# Altium integrated library FPGA.IntLib: 8 symbols (part 1 of 2)
Pins are listed as number, name and electrical type; pins without a type are passive.

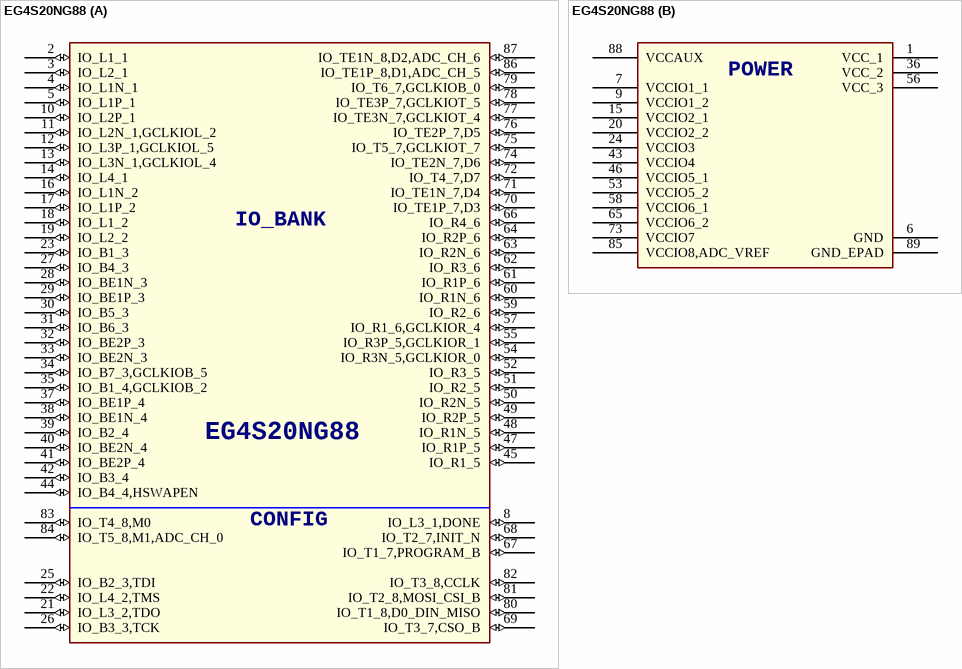
[diagram p0: symbol EG4S20NG88]

## EG4S20NG88
designator U?
SPLIT_INST: TRUE; SWAP_INFO: (S1+S2)
footprint QFN88 (QFN, 88-Leads, Body 10.00x10.00mm, Pitch 0.40mm, Thermal Pad 7.00x7.00mm, IPC Medium Density)
part A pins: 2 IO_L1_1 (io), 3 IO_L2_1 (io), 4 IO_L1N_1 (io), 5 IO_L1P_1 (io), 8 IO_L3_1,DONE (io), 10 IO_L2P_1 (io), 11 IO_L2N_1,GCLKIOL_2 (io), 12 IO_L3P_1,GCLKIOL_5 (io), 13 IO_L3N_1,GCLKIOL_4 (io), 14 IO_L4_1 (io), 16 IO_L1N_2 (io), 17 IO_L1P_2 (io), 18 IO_L1_2 (io), 19 IO_L2_2 (io), 21 IO_L3_2,TDO (io), 22 IO_L4_2,TMS (io), 23 IO_B1_3 (io), 25 IO_B2_3,TDI (io), 26 IO_B3_3,TCK (io), 27 IO_B4_3 (io), 28 IO_BE1N_3 (io), 29 IO_BE1P_3 (io), 30 IO_B5_3 (io), 31 IO_B6_3 (io), 32 IO_BE2P_3 (io), 33 IO_BE2N_3 (io), 34 IO_B7_3,GCLKIOB_5 (io), 35 IO_B1_4,GCLKIOB_2 (io), 37 IO_BE1P_4 (io), 38 IO_BE1N_4 (io), 39 IO_B2_4 (io), 40 IO_BE2N_4 (io), 41 IO_BE2P_4 (io), 42 IO_B3_4 (io), 44 IO_B4_4,HSWAPEN (io), 45 IO_R1_5 (io), 47 IO_R1P_5 (io), 48 IO_R1N_5 (io), 49 IO_R2P_5 (io), 50 IO_R2N_5 (io), 51 IO_R2_5 (io), 52 IO_R3_5 (io), 54 IO_R3N_5,GCLKIOR_0 (io), 55 IO_R3P_5,GCLKIOR_1 (io), 57 IO_R1_6,GCLKIOR_4 (io), 59 IO_R2_6 (io), 60 IO_R1N_6 (io), 61 IO_R1P_6 (io), 62 IO_R3_6 (io), 63 IO_R2N_6 (io), 64 IO_R2P_6 (io), 66 IO_R4_6 (io), 67 IO_T1_7,PROGRAM_B (io), 68 IO_T2_7,INIT_N (io), 69 IO_T3_7,CSO_B (io), 70 IO_TE1P_7,D3 (io), 71 IO_TE1N_7,D4 (io), 72 IO_T4_7,D7 (io), 74 IO_TE2N_7,D6 (io), 75 IO_T5_7,GCLKIOT_7 (io), 76 IO_TE2P_7,D5 (io), 77 IO_TE3N_7,GCLKIOT_4 (io), 78 IO_TE3P_7,GCLKIOT_5 (io), 79 IO_T6_7,GCLKIOB_0 (io), 80 IO_T1_8,D0_DIN_MISO (io), 81 IO_T2_8,MOSI_CSI_B (io), 82 IO_T3_8,CCLK (io), 83 IO_T4_8,M0 (io), 84 IO_T5_8,M1,ADC_CH_0 (io), 86 IO_TE1P_8,D1,ADC_CH_5 (io), 87 IO_TE1N_8,D2,ADC_CH_6 (io)
part B pins: 1 VCC_1 (power), 6 GND (power), 7 VCCIO1_1 (power), 9 VCCIO1_2 (power), 15 VCCIO2_1 (power), 20 VCCIO2_2 (power), 24 VCCIO3 (power), 36 VCC_2 (power), 43 VCCIO4 (power), 46 VCCIO5_1 (power), 53 VCCIO5_2 (power), 56 VCC_3 (power), 58 VCCIO6_1 (power), 65 VCCIO6_2 (power), 73 VCCIO7 (power), 85 VCCIO8,ADC_VREF (power), 88 VCCAUX (power), 89 GND_EPAD (power)
part A text: IO_BANK; CONFIG
part B text: POWER


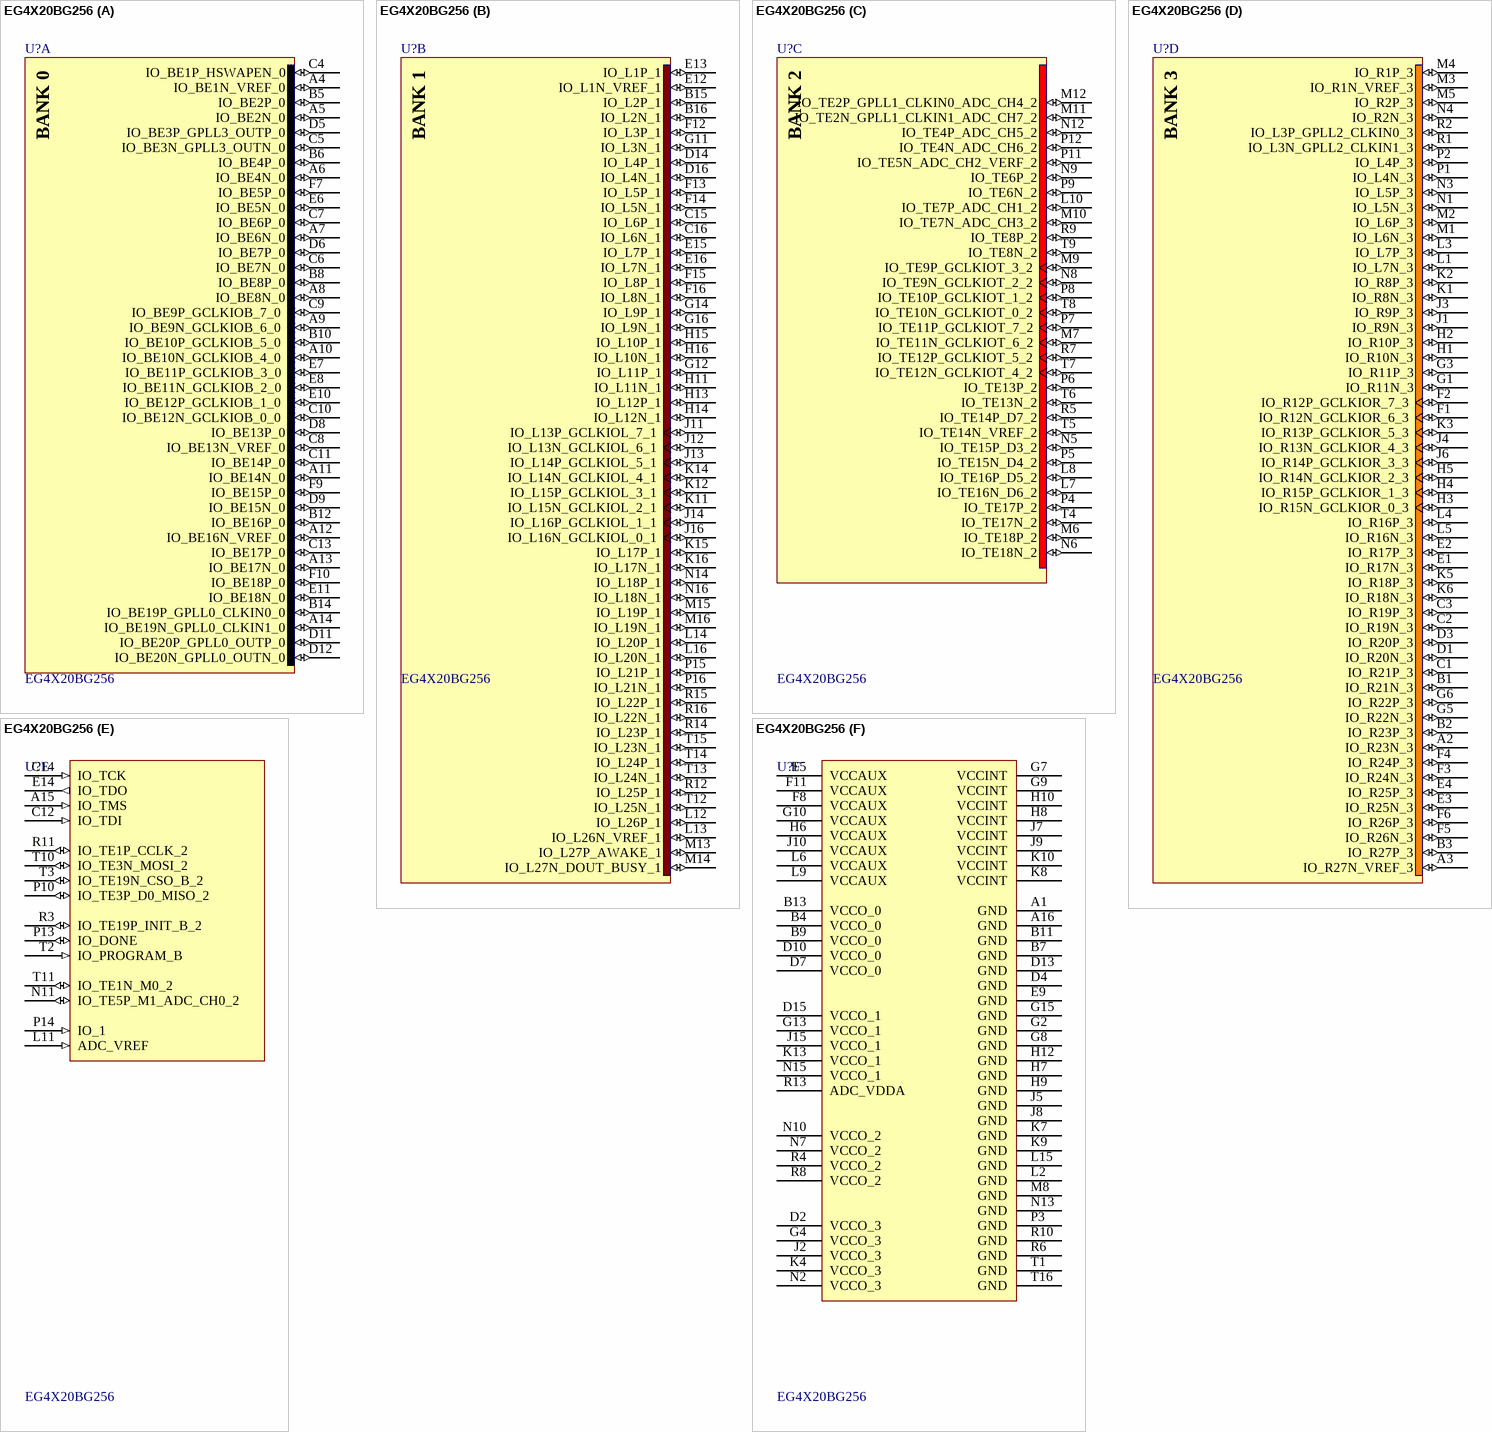
[diagram p1: symbol EG4X20BG256]

## EG4X20BG256
designator U?
Anlogic FPGA, 184 I/O Pins, 4 PLLs, 256-Pin FBGA
footprint BGA_17x17mm_P1.0mm_256P (BGA, 100-Leads, Body 17.00x17.00mmx1.40mm, Pitch 1.00mm)
part A pins: A4 IO_BE1N_VREF_0 (io), A5 IO_BE2N_0 (io), A6 IO_BE4N_0 (io), A7 IO_BE6N_0 (io), A8 IO_BE8N_0 (io), A9 IO_BE9N_GCLKIOB_6_0 (io), A10 IO_BE10N_GCLKIOB_4_0 (io), A11 IO_BE14N_0 (io), A12 IO_BE16N_VREF_0 (io), A13 IO_BE17N_0 (io), A14 IO_BE19N_GPLL0_CLKIN1_0 (io), B5 IO_BE2P_0 (io), B6 IO_BE4P_0 (io), B8 IO_BE8P_0 (io), B10 IO_BE10P_GCLKIOB_5_0 (io), B12 IO_BE16P_0 (io), B14 IO_BE19P_GPLL0_CLKIN0_0 (io), C4 IO_BE1P_HSWAPEN_0 (io), C5 IO_BE3N_GPLL3_OUTN_0 (io), C6 IO_BE7N_0 (io), C7 IO_BE6P_0 (io), C8 IO_BE13N_VREF_0 (io), C9 IO_BE9P_GCLKIOB_7_0 (io), C10 IO_BE12N_GCLKIOB_0_0 (io), C11 IO_BE14P_0 (io), C13 IO_BE17P_0 (io), D5 IO_BE3P_GPLL3_OUTP_0 (io), D6 IO_BE7P_0 (io), D8 IO_BE13P_0 (io), D9 IO_BE15N_0 (io), D11 IO_BE20P_GPLL0_OUTP_0 (io), D12 IO_BE20N_GPLL0_OUTN_0 (io), E6 IO_BE5N_0 (io), E7 IO_BE11P_GCLKIOB_3_0 (io), E8 IO_BE11N_GCLKIOB_2_0 (io), E10 IO_BE12P_GCLKIOB_1_0 (io), E11 IO_BE18N_0 (io), F7 IO_BE5P_0 (io), F9 IO_BE15P_0 (io), F10 IO_BE18P_0 (io)
part B pins: B15 IO_L2P_1 (io), B16 IO_L2N_1 (io), C15 IO_L6P_1 (io), C16 IO_L6N_1 (io), D14 IO_L4P_1 (io), D16 IO_L4N_1 (io), E12 IO_L1N_VREF_1 (io), E13 IO_L1P_1 (io), E15 IO_L7P_1 (io), E16 IO_L7N_1 (io), F12 IO_L3P_1 (io), F13 IO_L5P_1 (io), F14 IO_L5N_1 (io), F15 IO_L8P_1 (io), F16 IO_L8N_1 (io), G11 IO_L3N_1 (io), G12 IO_L11P_1 (io), G14 IO_L9P_1 (io), G16 IO_L9N_1 (io), H11 IO_L11N_1 (io), H13 IO_L12P_1 (io), H14 IO_L12N_1 (io), H15 IO_L10P_1 (io), H16 IO_L10N_1 (io), J11 IO_L13P_GCLKIOL_7_1 (io), J12 IO_L13N_GCLKIOL_6_1 (io), J13 IO_L14P_GCLKIOL_5_1 (io), J14 IO_L16P_GCLKIOL_1_1 (io), J16 IO_L16N_GCLKIOL_0_1 (io), K11 IO_L15N_GCLKIOL_2_1 (io), K12 IO_L15P_GCLKIOL_3_1 (io), K14 IO_L14N_GCLKIOL_4_1 (io), K15 IO_L17P_1 (io), K16 IO_L17N_1 (io), L12 IO_L26P_1 (io), L13 IO_L26N_VREF_1 (io), L14 IO_L20P_1 (io), L16 IO_L20N_1 (io), M13 IO_L27P_AWAKE_1 (io), M14 IO_L27N_DOUT_BUSY_1 (io), M15 IO_L19P_1 (io), M16 IO_L19N_1 (io), N14 IO_L18P_1 (io), N16 IO_L18N_1 (io), P15 IO_L21P_1 (io), P16 IO_L21N_1 (io), R12 IO_L25P_1 (io), R14 IO_L23P_1 (io), R15 IO_L22P_1 (io), R16 IO_L22N_1 (io), T12 IO_L25N_1 (io), T13 IO_L24N_1 (io), T14 IO_L24P_1 (io), T15 IO_L23N_1 (io)
part C pins: L7 IO_TE16N_D6_2 (io), L8 IO_TE16P_D5_2 (io), L10 IO_TE7P_ADC_CH1_2 (io), M6 IO_TE18P_2 (io), M7 IO_TE11N_GCLKIOT_6_2 (io), M9 IO_TE9P_GCLKIOT_3_2 (io), M10 IO_TE7N_ADC_CH3_2 (io), M11 IO_TE2N_GPLL1_CLKIN1_ADC_CH7_2 (io), M12 IO_TE2P_GPLL1_CLKIN0_ADC_CH4_2 (io), N5 IO_TE15P_D3_2 (io), N6 IO_TE18N_2 (io), N8 IO_TE9N_GCLKIOT_2_2 (io), N9 IO_TE6P_2 (io), N12 IO_TE4P_ADC_CH5_2 (io), P4 IO_TE17P_2 (io), P5 IO_TE15N_D4_2 (io), P6 IO_TE13P_2 (io), P7 IO_TE11P_GCLKIOT_7_2 (io), P8 IO_TE10P_GCLKIOT_1_2 (io), P9 IO_TE6N_2 (io), P11 IO_TE5N_ADC_CH2_VERF_2 (io), P12 IO_TE4N_ADC_CH6_2 (io), R5 IO_TE14P_D7_2 (io), R7 IO_TE12P_GCLKIOT_5_2 (io), R9 IO_TE8P_2 (io), T4 IO_TE17N_2 (io), T5 IO_TE14N_VREF_2 (io), T6 IO_TE13N_2 (io), T7 IO_TE12N_GCLKIOT_4_2 (io), T8 IO_TE10N_GCLKIOT_0_2 (io), T9 IO_TE8N_2 (io)
part D pins: A2 IO_R23N_3 (io), A3 IO_R27N_VREF_3 (io), B1 IO_R21N_3 (io), B2 IO_R23P_3 (io), B3 IO_R27P_3 (io), C1 IO_R21P_3 (io), C2 IO_R19N_3 (io), C3 IO_R19P_3 (io), D1 IO_R20N_3 (io), D3 IO_R20P_3 (io), E1 IO_R17N_3 (io), E2 IO_R17P_3 (io), E3 IO_R25N_3 (io), E4 IO_R25P_3 (io), F1 IO_R12N_GCLKIOR_6_3 (io), F2 IO_R12P_GCLKIOR_7_3 (io), F3 IO_R24N_3 (io), F4 IO_R24P_3 (io), F5 IO_R26N_3 (io), F6 IO_R26P_3 (io), G1 IO_R11N_3 (io), G3 IO_R11P_3 (io), G5 IO_R22N_3 (io), G6 IO_R22P_3 (io), H1 IO_R10N_3 (io), H2 IO_R10P_3 (io), H3 IO_R15N_GCLKIOR_0_3 (io), H4 IO_R15P_GCLKIOR_1_3 (io), H5 IO_R14N_GCLKIOR_2_3 (io), J1 IO_R9N_3 (io), J3 IO_R9P_3 (io), J4 IO_R13N_GCLKIOR_4_3 (io), J6 IO_R14P_GCLKIOR_3_3 (io), K1 IO_R8N_3 (io), K2 IO_R8P_3 (io), K3 IO_R13P_GCLKIOR_5_3 (io), K5 IO_R18P_3 (io), K6 IO_R18N_3 (io), L1 IO_L7N_3 (io), L3 IO_L7P_3 (io), L4 IO_R16P_3 (io), L5 IO_R16N_3 (io), M1 IO_L6N_3 (io), M2 IO_L6P_3 (io), M3 IO_R1N_VREF_3 (io), M4 IO_R1P_3 (io), M5 IO_R2P_3 (io), N1 IO_L5N_3 (io), N3 IO_L5P_3 (io), N4 IO_R2N_3 (io), P1 IO_L4N_3 (io), P2 IO_L4P_3 (io), R1 IO_L3N_GPLL2_CLKIN1_3 (io), R2 IO_L3P_GPLL2_CLKIN0_3 (io)
part E pins: A15 IO_TMS (in), C12 IO_TDI (in), C14 IO_TCK (in), E14 IO_TDO (out), L11 ADC_VREF (in), N11 IO_TE5P_M1_ADC_CH0_2 (io), P10 IO_TE3P_D0_MISO_2 (io), P13 IO_DONE (io), P14 IO_1 (in), R3 IO_TE19P_INIT_B_2 (io), R11 IO_TE1P_CCLK_2 (io), T2 IO_PROGRAM_B (in), T3 IO_TE19N_CSO_B_2 (io), T10 IO_TE3N_MOSI_2 (io), T11 IO_TE1N_M0_2 (io)
part F pins: A1 GND (power), A16 GND (power), B4 VCCO_0 (power), B7 GND (power), B9 VCCO_0 (power), B11 GND (power), B13 VCCO_0 (power), D2 VCCO_3 (power), D4 GND (power), D7 VCCO_0 (power), D10 VCCO_0 (power), D13 GND (power), D15 VCCO_1 (power), E5 VCCAUX (power), E9 GND (power), F8 VCCAUX (power), F11 VCCAUX (power), G2 GND (power), G4 VCCO_3 (power), G7 VCCINT (power), G8 GND (power), G9 VCCINT (power), G10 VCCAUX (power), G13 VCCO_1 (power), G15 GND (power), H6 VCCAUX (power), H7 GND (power), H8 VCCINT (power), H9 GND (power), H10 VCCINT (power), H12 GND (power), J2 VCCO_3 (power), J5 GND (power), J7 VCCINT (power), J8 GND (power), J9 VCCINT (power), J10 VCCAUX (power), J15 VCCO_1 (power), K4 VCCO_3 (power), K7 GND (power), K8 VCCINT (power), K9 GND (power), K10 VCCINT (power), K13 VCCO_1 (power), L2 GND (power), L6 VCCAUX (power), L9 VCCAUX (power), L15 GND (power), M8 GND (power), N2 VCCO_3 (power), N7 VCCO_2 (power), N10 VCCO_2 (power), N13 GND (power), N15 VCCO_1 (power), P3 GND (power), R4 VCCO_2 (power), R6 GND (power), R8 VCCO_2 (power), R10 GND (power), R13 ADC_VDDA (power), T1 GND (power), T16 GND (power)
part A text: BANK 0
part B text: BANK 1
part C text: BANK 2
part D text: BANK 3

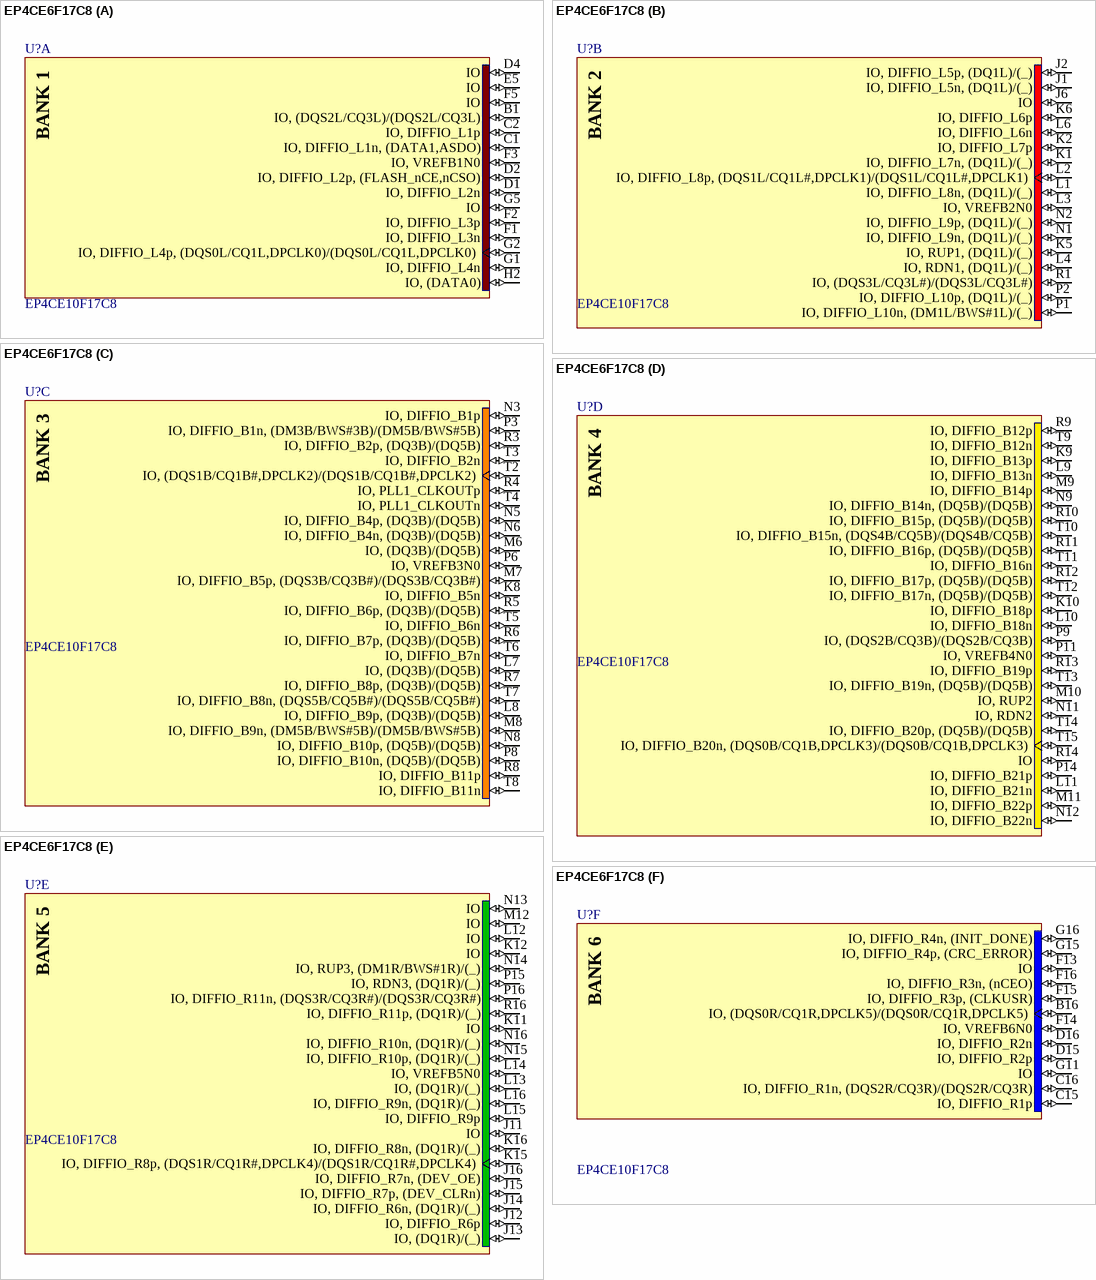
[diagram p2: symbol EP4CE6F17C8]

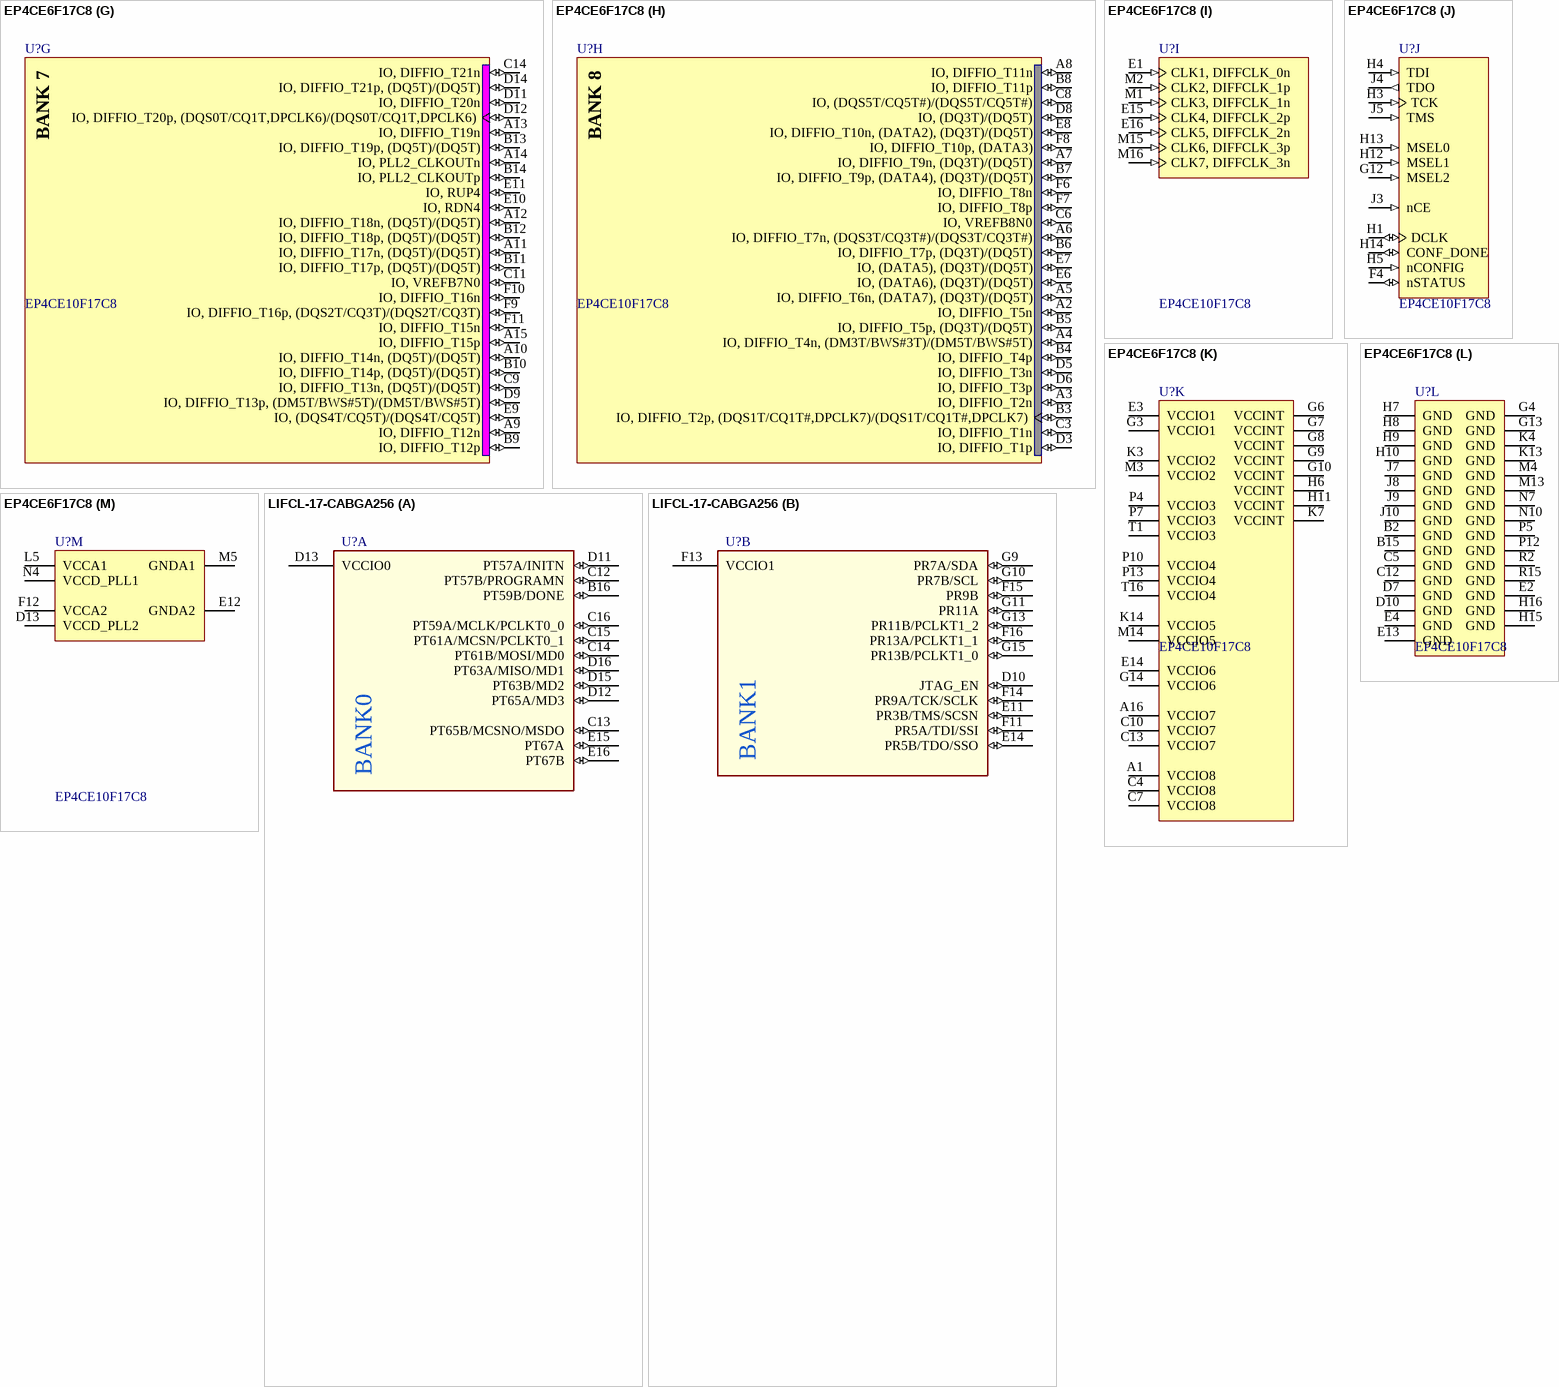
[diagram p3: symbols EP4CE6F17C8 to LIFCL-17-CABGA256]

## EP4CE6F17C8
designator U?, comment EP4CE10F17C8
Cyclone IV Family FPGA, 2V Core, 179 I/O Pins, 2 PLLs, 256-Pin FBGA, Speed Grade 8, Commercial Grade; Published: 3-May-2010; DatasheetVersion: ver1.2, Mar-2010; PackageVersion: ver16.0, Dec-2009; PackageReference: FBGA256; Publisher: Altium Limited; PackageDescription: 256-Ball FineLine Ball Grid Array (FBGA256) - Option 1 - Wire Bond; Supplier 1: Digi-Key; Supplier Part Number 1: EP4CE6F17C8-ND; Code_JEDEC: MS-034-AAF-1; Code_IPC: BGA100P16X16-256; ComponentLink1Description: Manufacturer Link; ComponentLink1URL: http://www.altera.com/; ComponentLink2Description: Handbook; ComponentLink2URL: http://www.altera.com/literature/hb/cyclone-iv/cyclone4-handbook.pdf; ComponentLink3Description: Pinout Specification; ComponentLink3URL: http://www.altera.com/literature/lit-dp.jsp?category=cyc%204&showspreadsheet=y; ComponentLink4Description: Packaging Specification; ComponentLink4URL: http://www.altera.com/literature/ds/dspkg.pdf
footprint FBGA256
part A pins: B1 IO, (DQS2L/CQ3L)/(DQS2L/CQ3L) (io), C1 IO, DIFFIO_L1n, (DATA1,ASDO) (io), C2 IO, DIFFIO_L1p (io), D1 IO, DIFFIO_L2n (io), D2 IO, DIFFIO_L2p, (FLASH_nCE,nCSO) (io), D4 IO (io), E5 IO (io), F1 IO, DIFFIO_L3n (io), F2 IO, DIFFIO_L3p (io), F3 IO, VREFB1N0 (io), F5 IO (io), G1 IO, DIFFIO_L4n (io), G2 IO, DIFFIO_L4p, (DQS0L/CQ1L,DPCLK0)/(DQS0L/CQ1L,DPCLK0) (io), G5 IO (io), H2 IO, (DATA0) (io)
part B pins: J1 IO, DIFFIO_L5n, (DQ1L)/(_) (io), J2 IO, DIFFIO_L5p, (DQ1L)/(_) (io), J6 IO (io), K1 IO, DIFFIO_L7n, (DQ1L)/(_) (io), K2 IO, DIFFIO_L7p (io), K5 IO, RUP1, (DQ1L)/(_) (io), K6 IO, DIFFIO_L6p (io), L1 IO, DIFFIO_L8n, (DQ1L)/(_) (io), L2 IO, DIFFIO_L8p, (DQS1L/CQ1L#,DPCLK1)/(DQS1L/CQ1L#,DPCLK1) (io), L3 IO, VREFB2N0 (io), L4 IO, RDN1, (DQ1L)/(_) (io), L6 IO, DIFFIO_L6n (io), N1 IO, DIFFIO_L9n, (DQ1L)/(_) (io), N2 IO, DIFFIO_L9p, (DQ1L)/(_) (io), P1 IO, DIFFIO_L10n, (DM1L/BWS#1L)/(_) (io), P2 IO, DIFFIO_L10p, (DQ1L)/(_) (io), R1 IO, (DQS3L/CQ3L#)/(DQS3L/CQ3L#) (io)
part C pins: K8 IO, DIFFIO_B5n (io), L7 IO, (DQ3B)/(DQ5B) (io), L8 IO, DIFFIO_B9p, (DQ3B)/(DQ5B) (io), M6 IO, (DQ3B)/(DQ5B) (io), M7 IO, DIFFIO_B5p, (DQS3B/CQ3B#)/(DQS3B/CQ3B#) (io), M8 IO, DIFFIO_B9n, (DM5B/BWS#5B)/(DM5B/BWS#5B) (io), N3 IO, DIFFIO_B1p (io), N5 IO, DIFFIO_B4p, (DQ3B)/(DQ5B) (io), N6 IO, DIFFIO_B4n, (DQ3B)/(DQ5B) (io), N8 IO, DIFFIO_B10p, (DQ5B)/(DQ5B) (io), P3 IO, DIFFIO_B1n, (DM3B/BWS#3B)/(DM5B/BWS#5B) (io), P6 IO, VREFB3N0 (io), P8 IO, DIFFIO_B10n, (DQ5B)/(DQ5B) (io), R3 IO, DIFFIO_B2p, (DQ3B)/(DQ5B) (io), R4 IO, PLL1_CLKOUTp (io), R5 IO, DIFFIO_B6p, (DQ3B)/(DQ5B) (io), R6 IO, DIFFIO_B7p, (DQ3B)/(DQ5B) (io), R7 IO, DIFFIO_B8p, (DQ3B)/(DQ5B) (io), R8 IO, DIFFIO_B11p (io), T2 IO, (DQS1B/CQ1B#,DPCLK2)/(DQS1B/CQ1B#,DPCLK2) (io), T3 IO, DIFFIO_B2n (io), T4 IO, PLL1_CLKOUTn (io), T5 IO, DIFFIO_B6n (io), T6 IO, DIFFIO_B7n (io), T7 IO, DIFFIO_B8n, (DQS5B/CQ5B#)/(DQS5B/CQ5B#) (io), T8 IO, DIFFIO_B11n (io)
part D pins: K9 IO, DIFFIO_B13p (io), K10 IO, DIFFIO_B18p (io), L9 IO, DIFFIO_B13n (io), L10 IO, DIFFIO_B18n (io), L11 IO, DIFFIO_B21n (io), M9 IO, DIFFIO_B14p (io), M10 IO, RUP2 (io), M11 IO, DIFFIO_B22p (io), N9 IO, DIFFIO_B14n, (DQ5B)/(DQ5B) (io), N11 IO, RDN2 (io), N12 IO, DIFFIO_B22n (io), P9 IO, (DQS2B/CQ3B)/(DQS2B/CQ3B) (io), P11 IO, VREFB4N0 (io), P14 IO, DIFFIO_B21p (io), R9 IO, DIFFIO_B12p (io), R10 IO, DIFFIO_B15p, (DQ5B)/(DQ5B) (io), R11 IO, DIFFIO_B16p, (DQ5B)/(DQ5B) (io), R12 IO, DIFFIO_B17p, (DQ5B)/(DQ5B) (io), R13 IO, DIFFIO_B19p (io), R14 IO (io), T9 IO, DIFFIO_B12n (io), T10 IO, DIFFIO_B15n, (DQS4B/CQ5B)/(DQS4B/CQ5B) (io), T11 IO, DIFFIO_B16n (io), T12 IO, DIFFIO_B17n, (DQ5B)/(DQ5B) (io), T13 IO, DIFFIO_B19n, (DQ5B)/(DQ5B) (io), T14 IO, DIFFIO_B20p, (DQ5B)/(DQ5B) (io), T15 IO, DIFFIO_B20n, (DQS0B/CQ1B,DPCLK3)/(DQS0B/CQ1B,DPCLK3) (io)
part E pins: J11 IO (io), J12 IO, DIFFIO_R6p (io), J13 IO, (DQ1R)/(_) (io), J14 IO, DIFFIO_R6n, (DQ1R)/(_) (io), J15 IO, DIFFIO_R7p, (DEV_CLRn) (io), J16 IO, DIFFIO_R7n, (DEV_OE) (io), K11 IO (io), K12 IO (io), K15 IO, DIFFIO_R8p, (DQS1R/CQ1R#,DPCLK4)/(DQS1R/CQ1R#,DPCLK4) (io), K16 IO, DIFFIO_R8n, (DQ1R)/(_) (io), L12 IO (io), L13 IO, (DQ1R)/(_) (io), L14 IO, VREFB5N0 (io), L15 IO, DIFFIO_R9p (io), L16 IO, DIFFIO_R9n, (DQ1R)/(_) (io), M12 IO (io), N13 IO (io), N14 IO, RUP3, (DM1R/BWS#1R)/(_) (io), N15 IO, DIFFIO_R10p, (DQ1R)/(_) (io), N16 IO, DIFFIO_R10n, (DQ1R)/(_) (io), P15 IO, RDN3, (DQ1R)/(_) (io), P16 IO, DIFFIO_R11n, (DQS3R/CQ3R#)/(DQS3R/CQ3R#) (io), R16 IO, DIFFIO_R11p, (DQ1R)/(_) (io)
part F pins: B16 IO, (DQS0R/CQ1R,DPCLK5)/(DQS0R/CQ1R,DPCLK5) (io), C15 IO, DIFFIO_R1p (io), C16 IO, DIFFIO_R1n, (DQS2R/CQ3R)/(DQS2R/CQ3R) (io), D15 IO, DIFFIO_R2p (io), D16 IO, DIFFIO_R2n (io), F13 IO (io), F14 IO, VREFB6N0 (io), F15 IO, DIFFIO_R3p, (CLKUSR) (io), F16 IO, DIFFIO_R3n, (nCEO) (io), G11 IO (io), G15 IO, DIFFIO_R4p, (CRC_ERROR) (io), G16 IO, DIFFIO_R4n, (INIT_DONE) (io)
part G pins: A9 IO, DIFFIO_T12n (io), A10 IO, DIFFIO_T14n, (DQ5T)/(DQ5T) (io), A11 IO, DIFFIO_T17n, (DQ5T)/(DQ5T) (io), A12 IO, DIFFIO_T18n, (DQ5T)/(DQ5T) (io), A13 IO, DIFFIO_T19n (io), A14 IO, PLL2_CLKOUTn (io), A15 IO, DIFFIO_T15p (io), B9 IO, DIFFIO_T12p (io), B10 IO, DIFFIO_T14p, (DQ5T)/(DQ5T) (io), B11 IO, DIFFIO_T17p, (DQ5T)/(DQ5T) (io), B12 IO, DIFFIO_T18p, (DQ5T)/(DQ5T) (io), B13 IO, DIFFIO_T19p, (DQ5T)/(DQ5T) (io), B14 IO, PLL2_CLKOUTp (io), C9 IO, DIFFIO_T13n, (DQ5T)/(DQ5T) (io), C11 IO, VREFB7N0 (io), C14 IO, DIFFIO_T21n (io), D9 IO, DIFFIO_T13p, (DM5T/BWS#5T)/(DM5T/BWS#5T) (io), D11 IO, DIFFIO_T20n (io), D12 IO, DIFFIO_T20p, (DQS0T/CQ1T,DPCLK6)/(DQS0T/CQ1T,DPCLK6) (io), D14 IO, DIFFIO_T21p, (DQ5T)/(DQ5T) (io), E9 IO, (DQS4T/CQ5T)/(DQS4T/CQ5T) (io), E10 IO, RDN4 (io), E11 IO, RUP4 (io), F9 IO, DIFFIO_T16p, (DQS2T/CQ3T)/(DQS2T/CQ3T) (io), F10 IO, DIFFIO_T16n (io), F11 IO, DIFFIO_T15n (io)
part H pins: A2 IO, DIFFIO_T5n (io), A3 IO, DIFFIO_T2n (io), A4 IO, DIFFIO_T4n, (DM3T/BWS#3T)/(DM5T/BWS#5T) (io), A5 IO, DIFFIO_T6n, (DATA7), (DQ3T)/(DQ5T) (io), A6 IO, DIFFIO_T7n, (DQS3T/CQ3T#)/(DQS3T/CQ3T#) (io), A7 IO, DIFFIO_T9n, (DQ3T)/(DQ5T) (io), A8 IO, DIFFIO_T11n (io), B3 IO, DIFFIO_T2p, (DQS1T/CQ1T#,DPCLK7)/(DQS1T/CQ1T#,DPCLK7) (io), B4 IO, DIFFIO_T4p (io), B5 IO, DIFFIO_T5p, (DQ3T)/(DQ5T) (io), B6 IO, DIFFIO_T7p, (DQ3T)/(DQ5T) (io), B7 IO, DIFFIO_T9p, (DATA4), (DQ3T)/(DQ5T) (io), B8 IO, DIFFIO_T11p (io), C3 IO, DIFFIO_T1n (io), C6 IO, VREFB8N0 (io), C8 IO, (DQS5T/CQ5T#)/(DQS5T/CQ5T#) (io), D3 IO, DIFFIO_T1p (io), D5 IO, DIFFIO_T3n (io), D6 IO, DIFFIO_T3p (io), D8 IO, (DQ3T)/(DQ5T) (io), E6 IO, (DATA6), (DQ3T)/(DQ5T) (io), E7 IO, (DATA5), (DQ3T)/(DQ5T) (io), E8 IO, DIFFIO_T10n, (DATA2), (DQ3T)/(DQ5T) (io), F6 IO, DIFFIO_T8n (io), F7 IO, DIFFIO_T8p (io), F8 IO, DIFFIO_T10p, (DATA3) (io)
part I pins: E1 CLK1, DIFFCLK_0n (in), E15 CLK4, DIFFCLK_2p (in), E16 CLK5, DIFFCLK_2n (in), M1 CLK3, DIFFCLK_1n (in), M2 CLK2, DIFFCLK_1p (in), M15 CLK6, DIFFCLK_3p (in), M16 CLK7, DIFFCLK_3n (in)
part J pins: F4 nSTATUS (io), G12 MSEL2 (in), H1 DCLK (io), H3 TCK (in), H4 TDI (in), H5 nCONFIG (in), H12 MSEL1 (in), H13 MSEL0 (in), H14 CONF_DONE (io), J3 nCE (in), J4 TDO (out), J5 TMS (in)
part K pins: A1 VCCIO8 (power), A16 VCCIO7 (power), C4 VCCIO8 (power), C7 VCCIO8 (power), C10 VCCIO7 (power), C13 VCCIO7 (power), E3 VCCIO1 (power), E14 VCCIO6 (power), G3 VCCIO1 (power), G6 VCCINT (power), G7 VCCINT (power), G8 VCCINT (power), G9 VCCINT (power), G10 VCCINT (power), G14 VCCIO6 (power), H6 VCCINT (power), H11 VCCINT (power), K3 VCCIO2 (power), K7 VCCINT (power), K14 VCCIO5 (power), M3 VCCIO2 (power), M14 VCCIO5 (power), P4 VCCIO3 (power), P7 VCCIO3 (power), P10 VCCIO4 (power), P13 VCCIO4 (power), T1 VCCIO3 (power), T16 VCCIO4 (power)
part L pins: B2 GND (power), B15 GND (power), C5 GND (power), C12 GND (power), D7 GND (power), D10 GND (power), E2 GND (power), E4 GND (power), E13 GND (power), G4 GND (power), G13 GND (power), H7 GND (power), H8 GND (power), H9 GND (power), H10 GND (power), H15 GND (power), H16 GND (power), J7 GND (power), J8 GND (power), J9 GND (power), J10 GND (power), K4 GND (power), K13 GND (power), M4 GND (power), M13 GND (power), N7 GND (power), N10 GND (power), P5 GND (power), P12 GND (power), R2 GND (power), R15 GND (power)
part M pins: D13 VCCD_PLL2 (power), E12 GNDA2 (power), F12 VCCA2 (power), L5 VCCA1 (power), M5 GNDA1 (power), N4 VCCD_PLL1 (power)
part A text: BANK 1
part B text: BANK 2
part C text: BANK 3
part D text: BANK 4
part E text: BANK 5
part F text: BANK 6
part G text: BANK 7
part H text: BANK 8

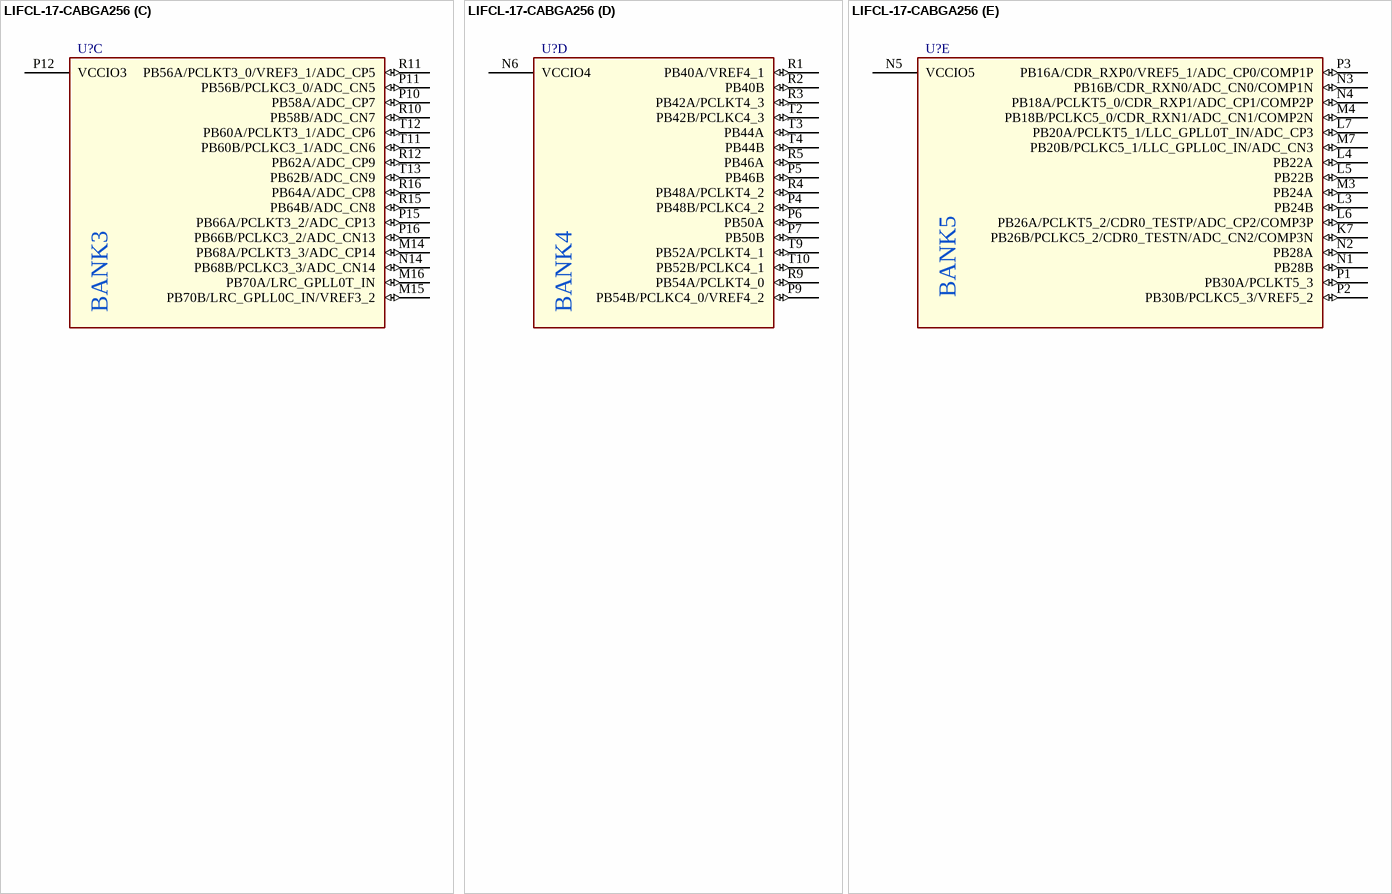
[diagram p4: symbol LIFCL-17-CABGA256]

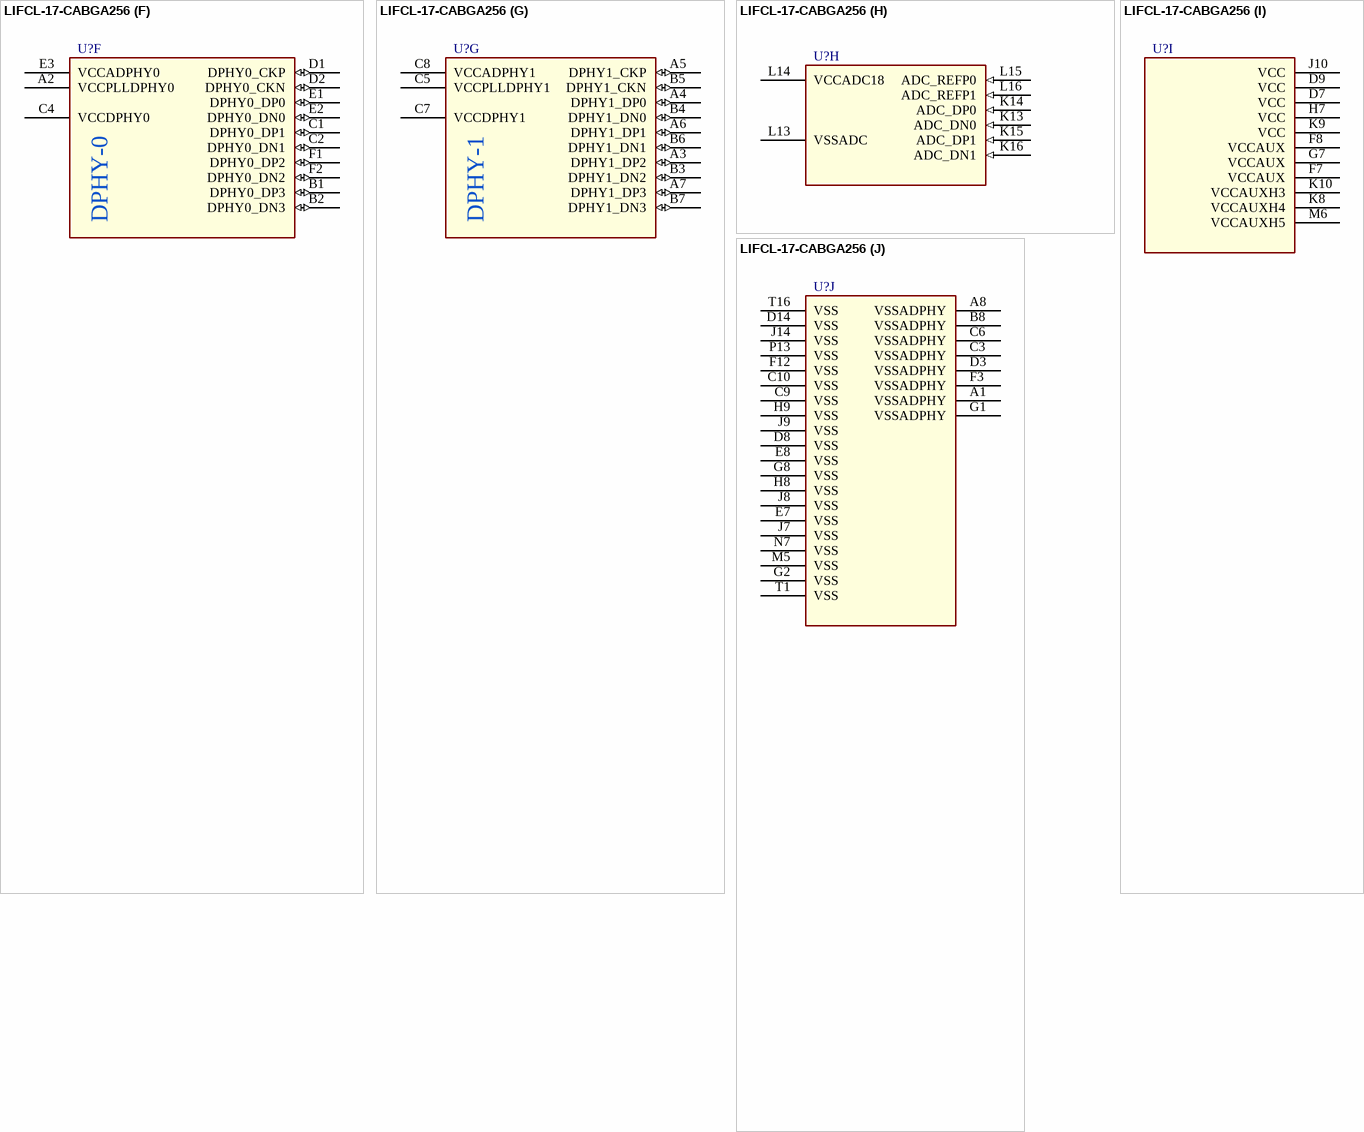
[diagram p5: symbol LIFCL-17-CABGA256]

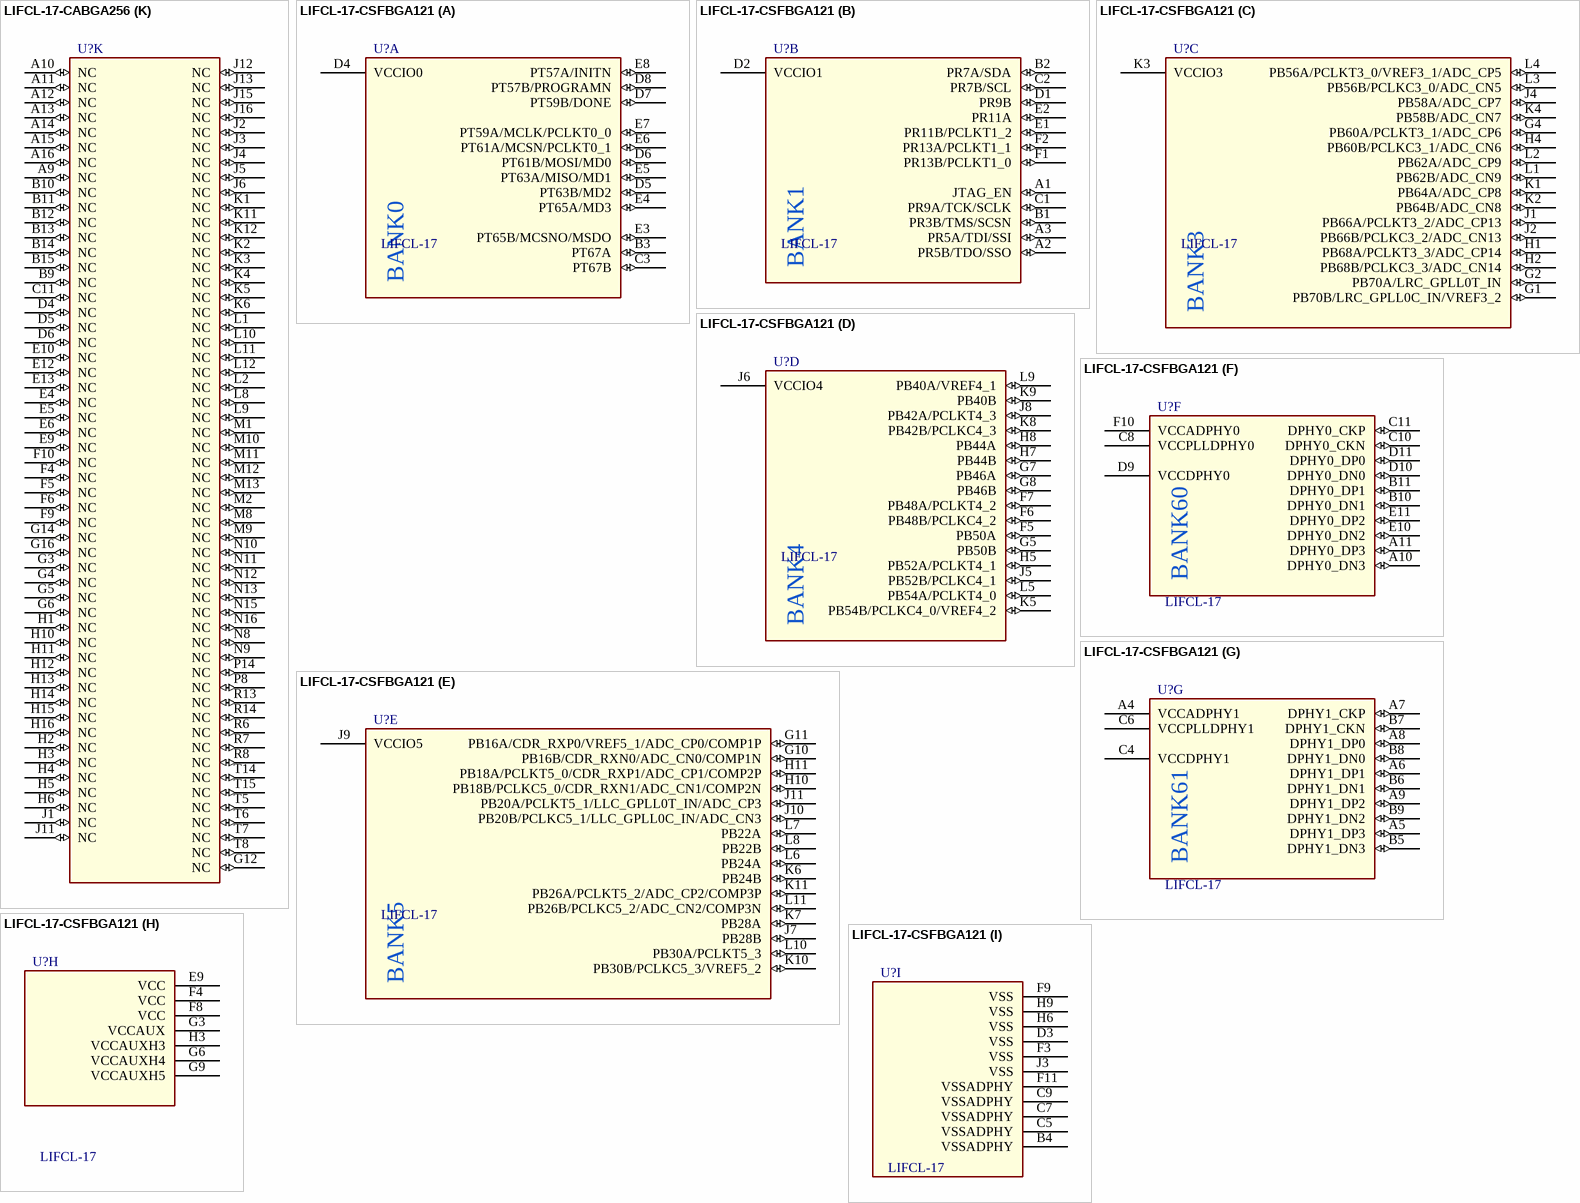
[diagram p6: symbols LIFCL-17-CABGA256 to LIFCL-17-CSFBGA121]

## LIFCL-17-CABGA256
designator U?
LIFCL-17-xBG256I
footprint CABGA-256_L14.0-W14.0-R16-C16-P0.80-TL
part A pins: B16 PT59B/DONE (io), C12 PT57B/PROGRAMN (io), C13 PT65B/MCSNO/MSDO (io), C14 PT61B/MOSI/MD0 (io), C15 PT61A/MCSN/PCLKT0_1 (io), C16 PT59A/MCLK/PCLKT0_0 (io), D11 PT57A/INITN (io), D12 PT65A/MD3 (io), D13 VCCIO0 (power), D15 PT63B/MD2 (io), D16 PT63A/MISO/MD1 (io), E15 PT67A (io), E16 PT67B (io)
part B pins: D10 JTAG_EN (io), E11 PR3B/TMS/SCSN (io), E14 PR5B/TDO/SSO (io), F11 PR5A/TDI/SSI (io), F13 VCCIO1 (power), F14 PR9A/TCK/SCLK (io), F15 PR9B (io), F16 PR13A/PCLKT1_1 (io), G9 PR7A/SDA (io), G10 PR7B/SCL (io), G11 PR11A (io), G13 PR11B/PCLKT1_2 (io), G15 PR13B/PCLKT1_0 (io)
part C pins: M14 PB68A/PCLKT3_3/ADC_CP14 (io), M15 PB70B/LRC_GPLL0C_IN/VREF3_2 (io), M16 PB70A/LRC_GPLL0T_IN (io), N14 PB68B/PCLKC3_3/ADC_CN14 (io), P10 PB58A/ADC_CP7 (io), P11 PB56B/PCLKC3_0/ADC_CN5 (io), P12 VCCIO3 (power), P15 PB66A/PCLKT3_2/ADC_CP13 (io), P16 PB66B/PCLKC3_2/ADC_CN13 (io), R10 PB58B/ADC_CN7 (io), R11 PB56A/PCLKT3_0/VREF3_1/ADC_CP5 (io), R12 PB62A/ADC_CP9 (io), R15 PB64B/ADC_CN8 (io), R16 PB64A/ADC_CP8 (io), T11 PB60B/PCLKC3_1/ADC_CN6 (io), T12 PB60A/PCLKT3_1/ADC_CP6 (io), T13 PB62B/ADC_CN9 (io)
part D pins: N6 VCCIO4 (power), P4 PB48B/PCLKC4_2 (io), P5 PB46B (io), P6 PB50A (io), P7 PB50B (io), P9 PB54B/PCLKC4_0/VREF4_2 (io), R1 PB40A/VREF4_1 (io), R2 PB40B (io), R3 PB42A/PCLKT4_3 (io), R4 PB48A/PCLKT4_2 (io), R5 PB46A (io), R9 PB54A/PCLKT4_0 (io), T2 PB42B/PCLKC4_3 (io), T3 PB44A (io), T4 PB44B (io), T9 PB52A/PCLKT4_1 (io), T10 PB52B/PCLKC4_1 (io)
part E pins: K7 PB26B/PCLKC5_2/CDR0_TESTN/ADC_CN2/COMP3N (io), L3 PB24B (io), L4 PB22A (io), L5 PB22B (io), L6 PB26A/PCLKT5_2/CDR0_TESTP/ADC_CP2/COMP3P (io), L7 PB20A/PCLKT5_1/LLC_GPLL0T_IN/ADC_CP3 (io), M3 PB24A (io), M4 PB18B/PCLKC5_0/CDR_RXN1/ADC_CN1/COMP2N (io), M7 PB20B/PCLKC5_1/LLC_GPLL0C_IN/ADC_CN3 (io), N1 PB28B (io), N2 PB28A (io), N3 PB16B/CDR_RXN0/ADC_CN0/COMP1N (io), N4 PB18A/PCLKT5_0/CDR_RXP1/ADC_CP1/COMP2P (io), N5 VCCIO5 (power), P1 PB30A/PCLKT5_3 (io), P2 PB30B/PCLKC5_3/VREF5_2 (io), P3 PB16A/CDR_RXP0/VREF5_1/ADC_CP0/COMP1P (io)
part F pins: A2 VCCPLLDPHY0 (power), B1 DPHY0_DP3 (io), B2 DPHY0_DN3 (io), C1 DPHY0_DP1 (io), C2 DPHY0_DN1 (io), C4 VCCDPHY0 (power), D1 DPHY0_CKP (io), D2 DPHY0_CKN (io), E1 DPHY0_DP0 (io), E2 DPHY0_DN0 (io), E3 VCCADPHY0 (power), F1 DPHY0_DP2 (io), F2 DPHY0_DN2 (io)
part G pins: A3 DPHY1_DP2 (io), A4 DPHY1_DP0 (io), A5 DPHY1_CKP (io), A6 DPHY1_DP1 (io), A7 DPHY1_DP3 (io), B3 DPHY1_DN2 (io), B4 DPHY1_DN0 (io), B5 DPHY1_CKN (io), B6 DPHY1_DN1 (io), B7 DPHY1_DN3 (io), C5 VCCPLLDPHY1 (power), C7 VCCDPHY1 (power), C8 VCCADPHY1 (power)
part H pins: K13 ADC_DN0 (in), K14 ADC_DP0 (in), K15 ADC_DP1 (in), K16 ADC_DN1 (in), L13 VSSADC (power), L14 VCCADC18 (power), L15 ADC_REFP0 (in), L16 ADC_REFP1 (in)
part I pins: D7 VCC (power), D9 VCC (power), F7 VCCAUX (power), F8 VCCAUX (power), G7 VCCAUX (power), H7 VCC (power), J10 VCC (power), K8 VCCAUXH4 (power), K9 VCC (power), K10 VCCAUXH3 (power), M6 VCCAUXH5 (power)
part J pins: A1 VSSADPHY (power), A8 VSSADPHY (power), B8 VSSADPHY (power), C3 VSSADPHY (power), C6 VSSADPHY (power), C9 VSS (power), C10 VSS (power), D3 VSSADPHY (power), D8 VSS (power), D14 VSS (power), E7 VSS (power), E8 VSS (power), F3 VSSADPHY (power), F12 VSS (power), G1 VSSADPHY (power), G2 VSS (power), G8 VSS (power), H8 VSS (power), H9 VSS (power), J7 VSS (power), J8 VSS (power), J9 VSS (power), J14 VSS (power), M5 VSS (power), N7 VSS (power), P13 VSS (power), T1 VSS (power), T16 VSS (power)
part K pins: A9 NC (io), A10 NC (io), A11 NC (io), A12 NC (io), A13 NC (io), A14 NC (io), A15 NC (io), A16 NC (io), B9 NC (io), B10 NC (io), B11 NC (io), B12 NC (io), B13 NC (io), B14 NC (io), B15 NC (io), C11 NC (io), D4 NC (io), D5 NC (io), D6 NC (io), E4 NC (io), E5 NC (io), E6 NC (io), E9 NC (io), E10 NC (io), E12 NC (io), E13 NC (io), F4 NC (io), F5 NC (io), F6 NC (io), F9 NC (io), F10 NC (io), G3 NC (io), G4 NC (io), G5 NC (io), G6 NC (io), G12 NC (io), G14 NC (io), G16 NC (io), H1 NC (io), H2 NC (io), H3 NC (io), H4 NC (io), H5 NC (io), H6 NC (io), H10 NC (io), H11 NC (io), H12 NC (io), H13 NC (io), H14 NC (io), H15 NC (io), H16 NC (io), J1 NC (io), J2 NC (io), J3 NC (io), J4 NC (io), J5 NC (io), J6 NC (io), J11 NC (io), J12 NC (io), J13 NC (io), J15 NC (io), J16 NC (io), K1 NC (io), K2 NC (io), K3 NC (io), K4 NC (io), K5 NC (io), K6 NC (io), K11 NC (io), K12 NC (io), L1 NC (io), L2 NC (io), L8 NC (io), L9 NC (io), L10 NC (io), L11 NC (io), L12 NC (io), M1 NC (io), M2 NC (io), M8 NC (io), M9 NC (io), M10 NC (io), M11 NC (io), M12 NC (io), M13 NC (io), N8 NC (io), N9 NC (io), N10 NC (io), N11 NC (io), N12 NC (io), N13 NC (io), N15 NC (io), N16 NC (io), P8 NC (io), P14 NC (io), R6 NC (io), R7 NC (io), R8 NC (io), R13 NC (io), R14 NC (io), T5 NC (io), T6 NC (io), T7 NC (io), T8 NC (io), T14 NC (io), T15 NC (io)
part A text: BANK0
part B text: BANK1
part C text: BANK3
part D text: BANK4
part E text: BANK5
part F text: DPHY-0
part G text: DPHY-1

## LIFCL-17-CSFBGA121
designator U?, comment LIFCL-17
LIFCL-17-CSFBGA121
footprint CSFBGA-121_L6.0-W6.0-R11-C11-P0.50-TL
part A pins: B3 PT67A (io), C3 PT67B (io), D4 VCCIO0 (power), D5 PT63B/MD2 (io), D6 PT61B/MOSI/MD0 (io), D7 PT59B/DONE (io), D8 PT57B/PROGRAMN (io), E3 PT65B/MCSNO/MSDO (io), E4 PT65A/MD3 (io), E5 PT63A/MISO/MD1 (io), E6 PT61A/MCSN/PCLKT0_1 (io), E7 PT59A/MCLK/PCLKT0_0 (io), E8 PT57A/INITN (io)
part B pins: A1 JTAG_EN (io), A2 PR5B/TDO/SSO (io), A3 PR5A/TDI/SSI (io), B1 PR3B/TMS/SCSN (io), B2 PR7A/SDA (io), C1 PR9A/TCK/SCLK (io), C2 PR7B/SCL (io), D1 PR9B (io), D2 VCCIO1 (power), E1 PR11B/PCLKT1_2 (io), E2 PR11A (io), F1 PR13B/PCLKT1_0 (io), F2 PR13A/PCLKT1_1 (io)
part C pins: G1 PB70B/LRC_GPLL0C_IN/VREF3_2 (io), G2 PB70A/LRC_GPLL0T_IN (io), G4 PB60A/PCLKT3_1/ADC_CP6 (io), H1 PB68A/PCLKT3_3/ADC_CP14 (io), H2 PB68B/PCLKC3_3/ADC_CN14 (io), H4 PB60B/PCLKC3_1/ADC_CN6 (io), J1 PB66A/PCLKT3_2/ADC_CP13 (io), J2 PB66B/PCLKC3_2/ADC_CN13 (io), J4 PB58A/ADC_CP7 (io), K1 PB64A/ADC_CP8 (io), K2 PB64B/ADC_CN8 (io), K3 VCCIO3 (power), K4 PB58B/ADC_CN7 (io), L1 PB62B/ADC_CN9 (io), L2 PB62A/ADC_CP9 (io), L3 PB56B/PCLKC3_0/ADC_CN5 (io), L4 PB56A/PCLKT3_0/VREF3_1/ADC_CP5 (io)
part D pins: F5 PB50A (io), F6 PB48B/PCLKC4_2 (io), F7 PB48A/PCLKT4_2 (io), G5 PB50B (io), G7 PB46A (io), G8 PB46B (io), H5 PB52A/PCLKT4_1 (io), H7 PB44B (io), H8 PB44A (io), J5 PB52B/PCLKC4_1 (io), J6 VCCIO4 (power), J8 PB42A/PCLKT4_3 (io), K5 PB54B/PCLKC4_0/VREF4_2 (io), K8 PB42B/PCLKC4_3 (io), K9 PB40B (io), L5 PB54A/PCLKT4_0 (io), L9 PB40A/VREF4_1 (io)
part E pins: G10 PB16B/CDR_RXN0/ADC_CN0/COMP1N (io), G11 PB16A/CDR_RXP0/VREF5_1/ADC_CP0/COMP1P (io), H10 PB18B/PCLKC5_0/CDR_RXN1/ADC_CN1/COMP2N (io), H11 PB18A/PCLKT5_0/CDR_RXP1/ADC_CP1/COMP2P (io), J7 PB28B (io), J9 VCCIO5 (power), J10 PB20B/PCLKC5_1/LLC_GPLL0C_IN/ADC_CN3 (io), J11 PB20A/PCLKT5_1/LLC_GPLL0T_IN/ADC_CP3 (io), K6 PB24B (io), K7 PB28A (io), K10 PB30B/PCLKC5_3/VREF5_2 (io), K11 PB26A/PCLKT5_2/ADC_CP2/COMP3P (io), L6 PB24A (io), L7 PB22A (io), L8 PB22B (io), L10 PB30A/PCLKT5_3 (io), L11 PB26B/PCLKC5_2/ADC_CN2/COMP3N (io)
part F pins: A10 DPHY0_DN3 (io), A11 DPHY0_DP3 (io), B10 DPHY0_DN1 (io), B11 DPHY0_DP1 (io), C8 VCCPLLDPHY0 (power), C10 DPHY0_CKN (io), C11 DPHY0_CKP (io), D9 VCCDPHY0 (power), D10 DPHY0_DN0 (io), D11 DPHY0_DP0 (io), E10 DPHY0_DN2 (io), E11 DPHY0_DP2 (io), F10 VCCADPHY0 (power)
part G pins: A4 VCCADPHY1 (power), A5 DPHY1_DP3 (io), A6 DPHY1_DP1 (io), A7 DPHY1_CKP (io), A8 DPHY1_DP0 (io), A9 DPHY1_DP2 (io), B5 DPHY1_DN3 (io), B6 DPHY1_DN1 (io), B7 DPHY1_CKN (io), B8 DPHY1_DN0 (io), B9 DPHY1_DN2 (io), C4 VCCDPHY1 (power), C6 VCCPLLDPHY1 (power)
part H pins: E9 VCC (power), F4 VCC (power), F8 VCC (power), G3 VCCAUX (power), G6 VCCAUXH4 (power), G9 VCCAUXH5 (power), H3 VCCAUXH3 (power)
part I pins: B4 VSSADPHY (power), C5 VSSADPHY (power), C7 VSSADPHY (power), C9 VSSADPHY (power), D3 VSS (power), F3 VSS (power), F9 VSS (power), F11 VSSADPHY (power), H6 VSS (power), H9 VSS (power), J3 VSS (power)
part A text: BANK0
part B text: BANK1
part C text: BANK3
part D text: BANK4
part E text: BANK5
part F text: BANK60
part G text: BANK61

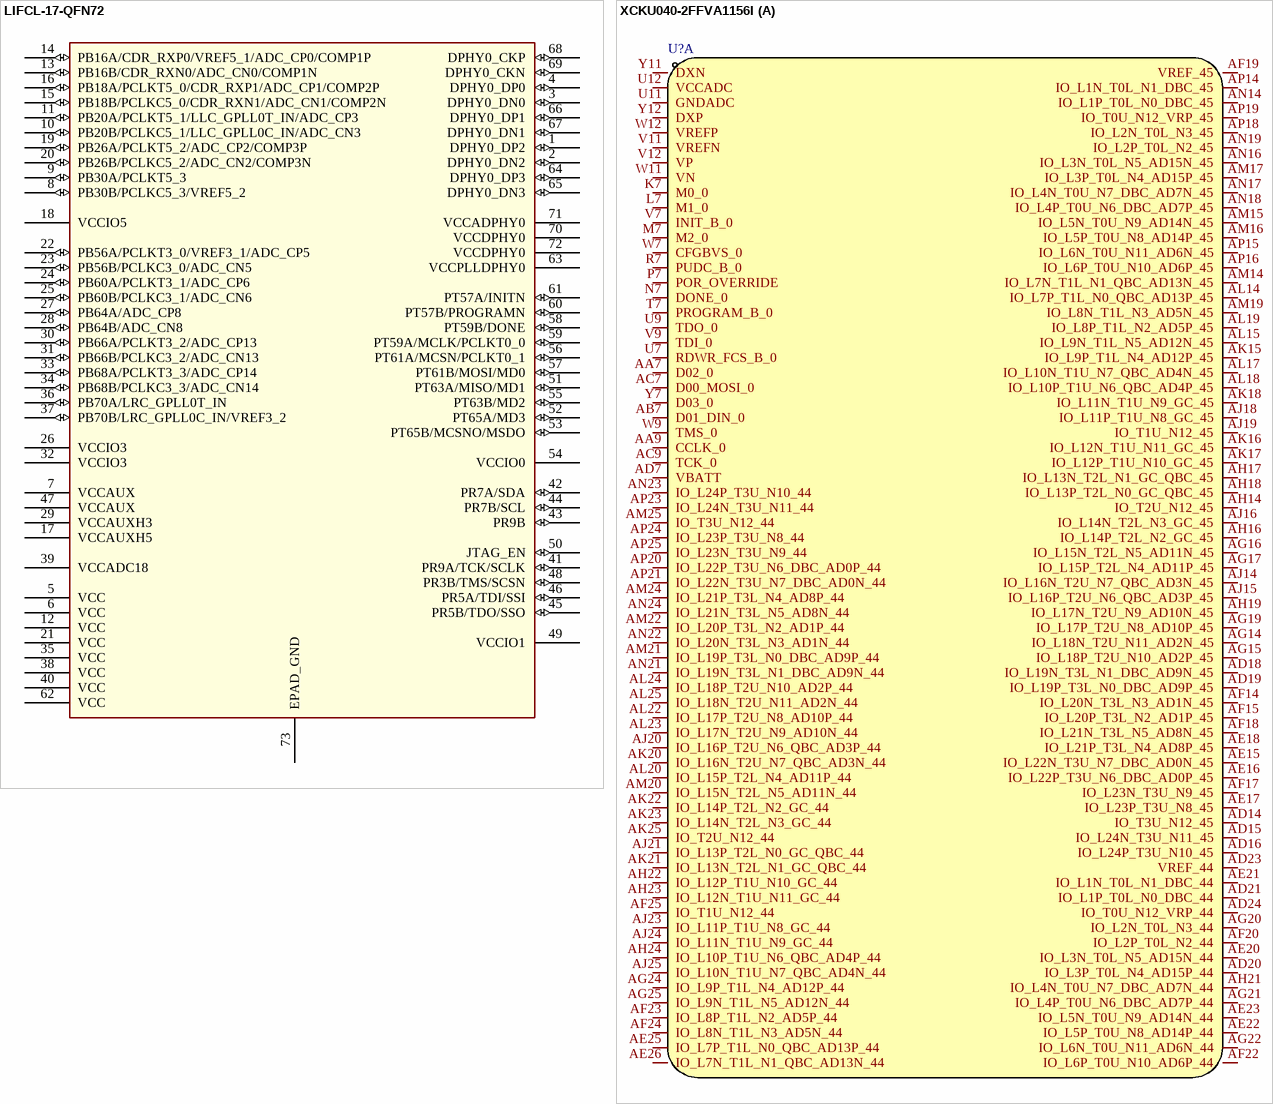
[diagram p7: symbols LIFCL-17-QFN72 to XCKU040-2FFVA1156I]

## LIFCL-17-QFN72
designator U?
LIFCL-17-8SG72I   QFN72
footprint QFN-72_L10.0-W10.0-P0.50-BL-EP6.2
pins: 1 DPHY0_DP2 (io), 2 DPHY0_DN2 (io), 3 DPHY0_DN0 (io), 4 DPHY0_DP0 (io), 5 VCC (power), 6 VCC (power), 7 VCCAUX (power), 8 PB30B/PCLKC5_3/VREF5_2 (io), 9 PB30A/PCLKT5_3 (io), 10 PB20B/PCLKC5_1/LLC_GPLL0C_IN/ADC_CN3 (io), 11 PB20A/PCLKT5_1/LLC_GPLL0T_IN/ADC_CP3 (io), 12 VCC (power), 13 PB16B/CDR_RXN0/ADC_CN0/COMP1N (io), 14 PB16A/CDR_RXP0/VREF5_1/ADC_CP0/COMP1P (io), 15 PB18B/PCLKC5_0/CDR_RXN1/ADC_CN1/COMP2N (io), 16 PB18A/PCLKT5_0/CDR_RXP1/ADC_CP1/COMP2P (io), 17 VCCAUXH5 (power), 18 VCCIO5 (power), 19 PB26A/PCLKT5_2/ADC_CP2/COMP3P (io), 20 PB26B/PCLKC5_2/ADC_CN2/COMP3N (io), 21 VCC (power), 22 PB56A/PCLKT3_0/VREF3_1/ADC_CP5 (io), 23 PB56B/PCLKC3_0/ADC_CN5 (io), 24 PB60A/PCLKT3_1/ADC_CP6 (io), 25 PB60B/PCLKC3_1/ADC_CN6 (io), 26 VCCIO3 (power), 27 PB64A/ADC_CP8 (io), 28 PB64B/ADC_CN8 (io), 29 VCCAUXH3 (power), 30 PB66A/PCLKT3_2/ADC_CP13 (io), 31 PB66B/PCLKC3_2/ADC_CN13 (io), 32 VCCIO3 (power), 33 PB68A/PCLKT3_3/ADC_CP14 (io), 34 PB68B/PCLKC3_3/ADC_CN14 (io), 35 VCC (power), 36 PB70A/LRC_GPLL0T_IN (io), 37 PB70B/LRC_GPLL0C_IN/VREF3_2 (io), 38 VCC (power), 39 VCCADC18 (power), 40 VCC (power), 41 PR9A/TCK/SCLK (io), 42 PR7A/SDA (io), 43 PR9B (io), 44 PR7B/SCL (io), 45 PR5B/TDO/SSO (io), 46 PR5A/TDI/SSI (io), 47 VCCAUX (power), 48 PR3B/TMS/SCSN (io), 49 VCCIO1 (power), 50 JTAG_EN (io), 51 PT63A/MISO/MD1 (io), 52 PT65A/MD3 (io), 53 PT65B/MCSNO/MSDO (io), 54 VCCIO0 (power), 55 PT63B/MD2 (io), 56 PT61A/MCSN/PCLKT0_1 (io), 57 PT61B/MOSI/MD0 (io), 58 PT59B/DONE (io), 59 PT59A/MCLK/PCLKT0_0 (io), 60 PT57B/PROGRAMN (io), 61 PT57A/INITN (io), 62 VCC (power), 63 VCCPLLDPHY0 (power), 64 DPHY0_DP3 (io), 65 DPHY0_DN3 (io), 66 DPHY0_DP1 (io), 67 DPHY0_DN1 (io), 68 DPHY0_CKP (io), 69 DPHY0_CKN (io), 70 VCCDPHY0 (power), 71 VCCADPHY0 (power), 72 VCCDPHY0 (power), 73 EPAD_GND (power)

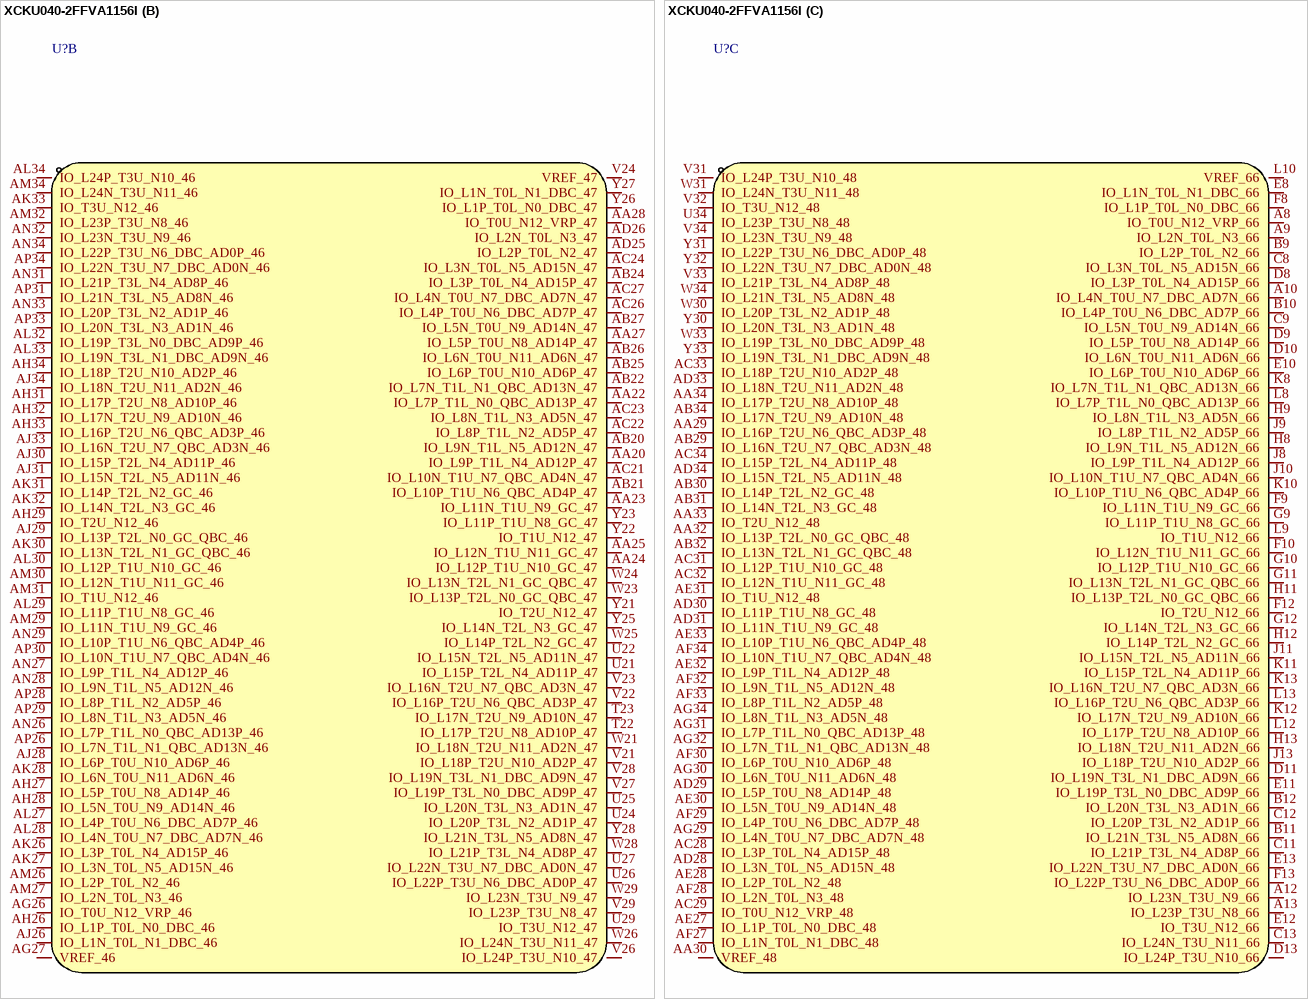
[diagram p8: symbol XCKU040-2FFVA1156I]

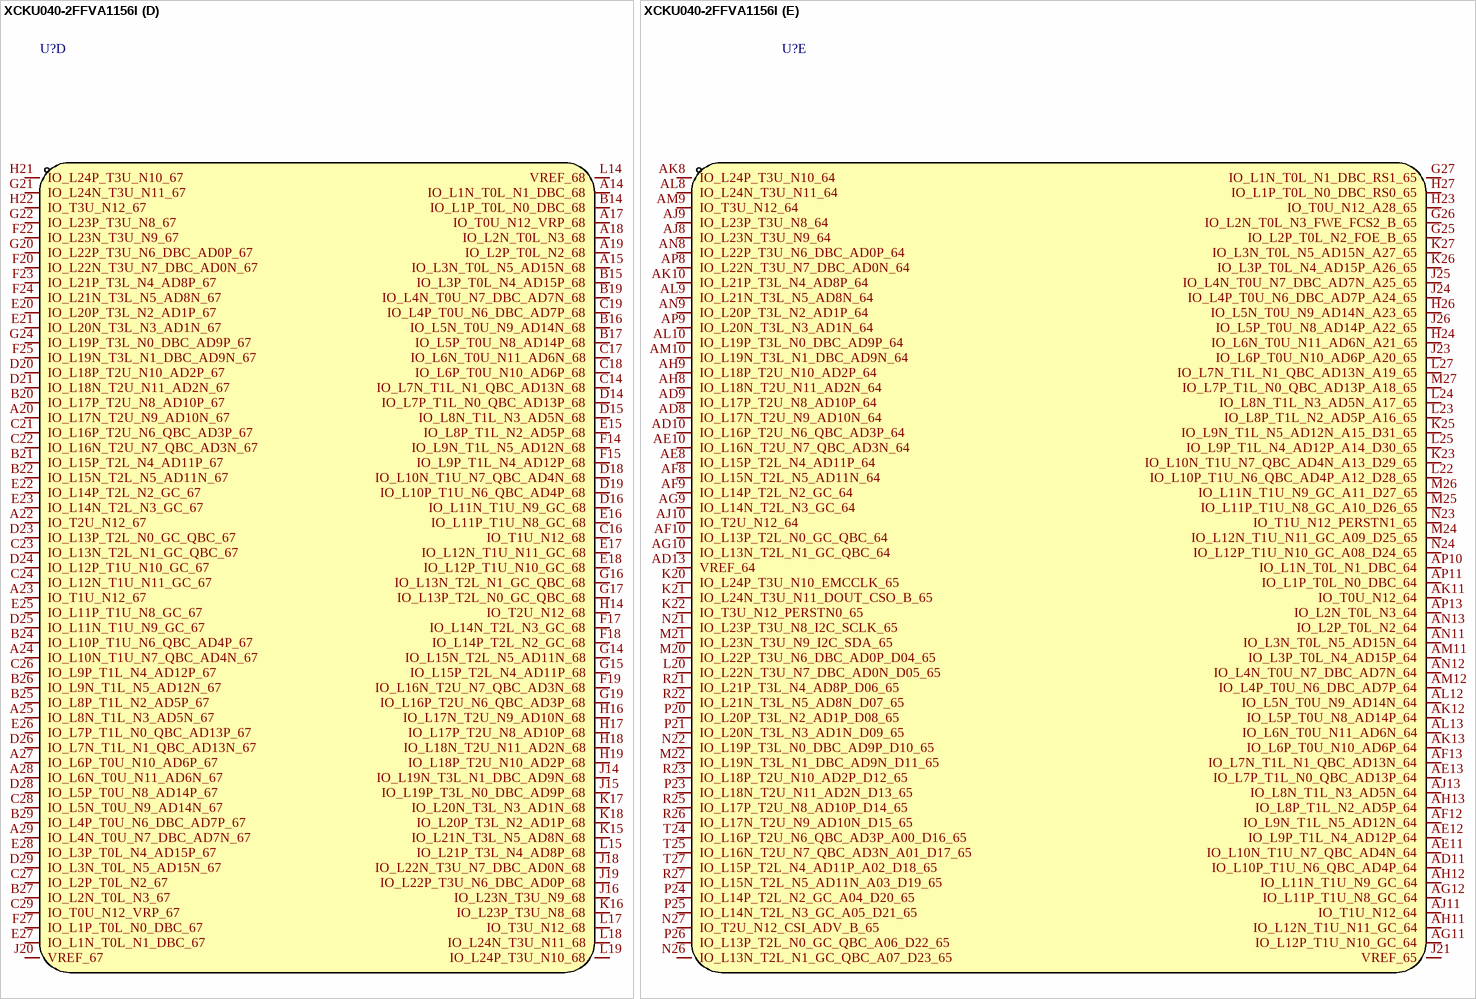
[diagram p9: symbol XCKU040-2FFVA1156I]

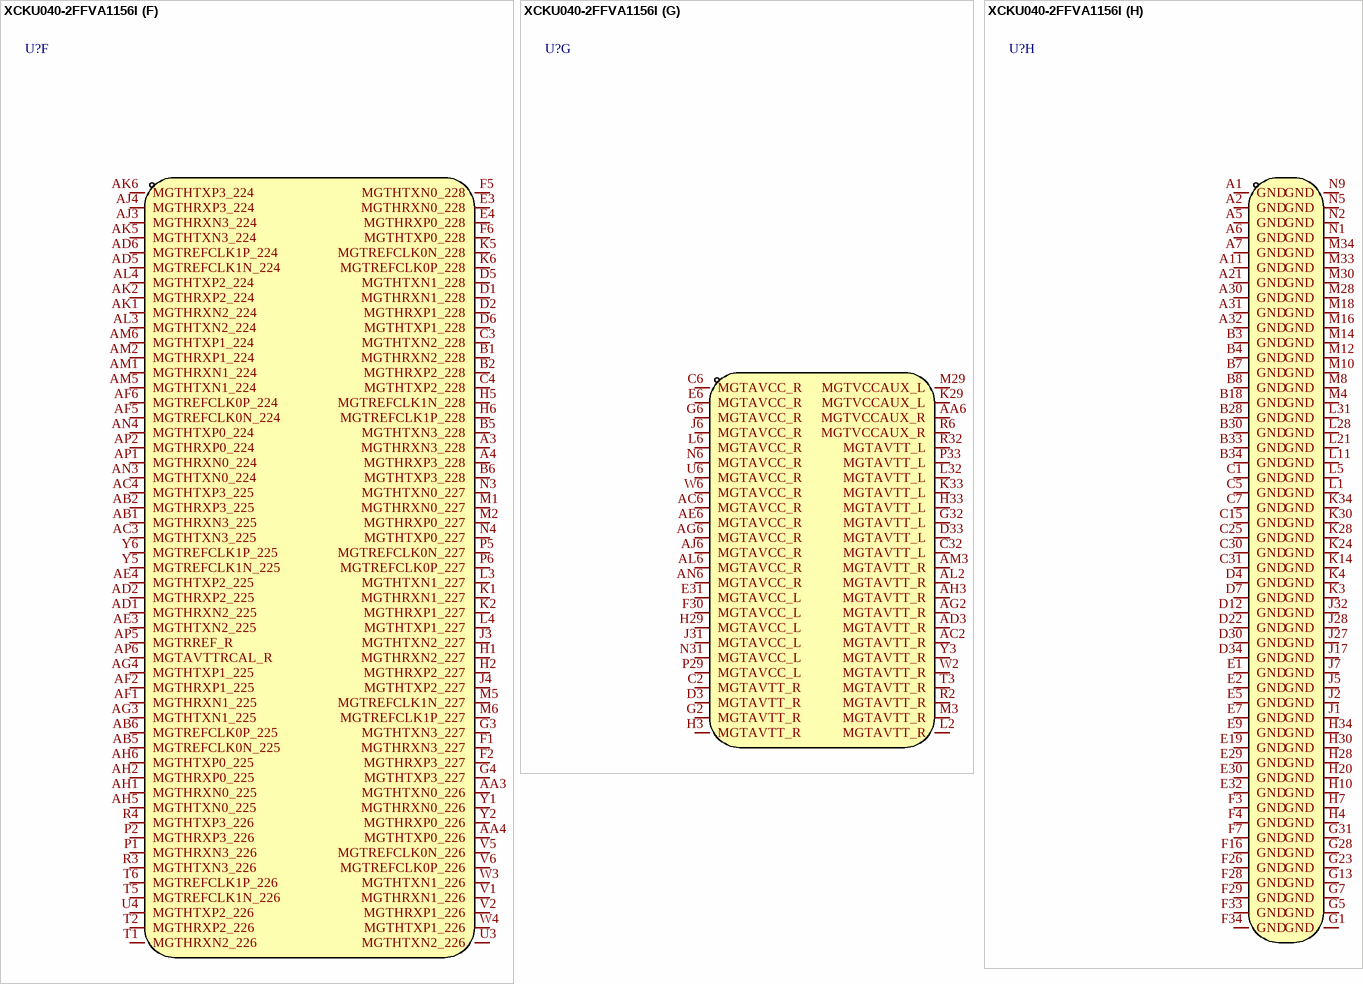
[diagram p10: symbol XCKU040-2FFVA1156I]

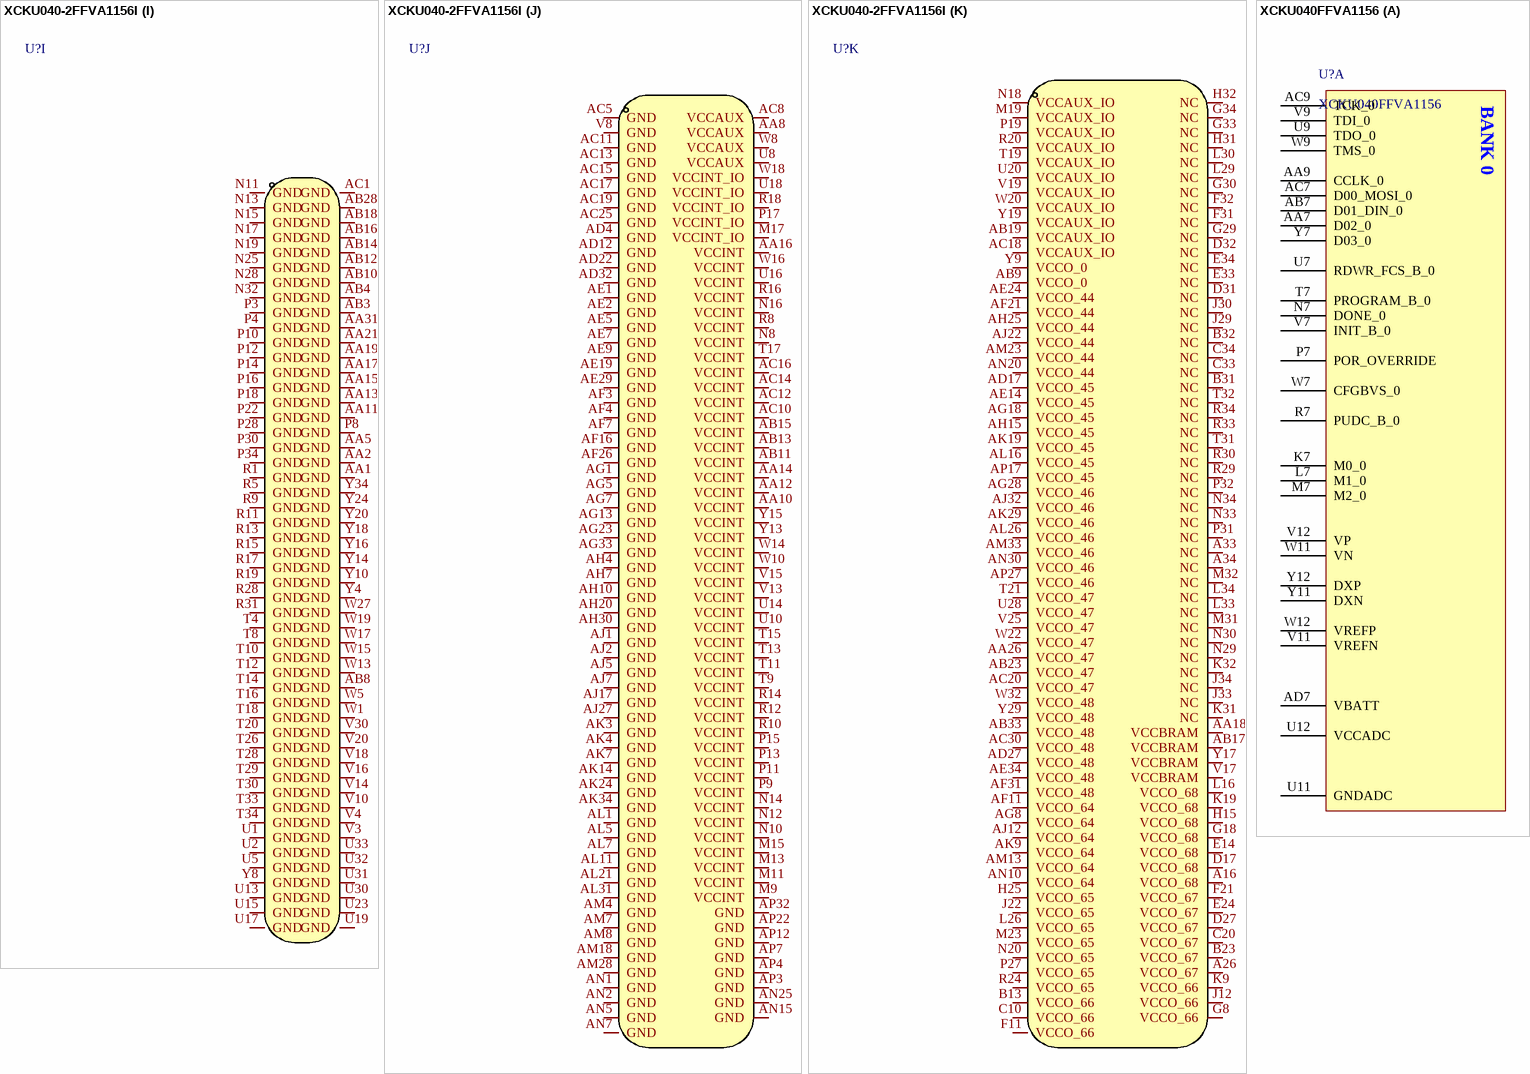
[diagram p11: symbols XCKU040-2FFVA1156I to XCKU040FFVA1156]

## XCKU040-2FFVA1156I
designator U?  (value not drawn)
Manufacturer: XILINX(赛灵思); Add into BOM: yes; Name: XCKU040-2FFVA1156I; Symbol: XCKU040-2FFVA1156I; Device: XCKU040-2FFVA1156I; LCSC Part Name: XCKU040 2FFVA1156I -; Supplier Part: C1553460; Manufacturer Part: XCKU040-2FFVA1156I; Supplier Footprint: FCBGA-1156; JLCPCB Part Class: 扩展库; Datasheet: https://atta.szlcsc.com/upload/public/pdf/source/20210630/022F4BDF48DB26313F80DC0F67DEEBAF.pdf; Supplier: LCSC; Convert to PCB: yes
footprint FBGA-1156_L35.0-W35.0-R34-C34-P1.00-TL
3D model FBGA-1156_L35.0-W35.0-R34-C34-P1.00-TL
part A pins: AA7 D02_0, AA9 CCLK_0, AB7 D01_DIN_0, AC7 D00_MOSI_0, AC9 TCK_0, AD7 VBATT, AD14 IO_T3U_N12_45, AD15 IO_L24N_T3U_N11_45, AD16 IO_L24P_T3U_N10_45, AD18 IO_L19N_T3L_N1_DBC_AD9N_45, AD19 IO_L19P_T3L_N0_DBC_AD9P_45, AD20 IO_L3P_T0L_N4_AD15P_44, AD21 IO_L1P_T0L_N0_DBC_44, AD23 VREF_44, AD24 IO_T0U_N12_VRP_44, AE15 IO_L22N_T3U_N7_DBC_AD0N_45, AE16 IO_L22P_T3U_N6_DBC_AD0P_45, AE17 IO_L23P_T3U_N8_45, AE18 IO_L21P_T3L_N4_AD8P_45, AE20 IO_L3N_T0L_N5_AD15N_44, AE21 IO_L1N_T0L_N1_DBC_44, AE22 IO_L5P_T0U_N8_AD14P_44, AE23 IO_L5N_T0U_N9_AD14N_44, AE25 IO_L7P_T1L_N0_QBC_AD13P_44, AE26 IO_L7N_T1L_N1_QBC_AD13N_44, AF14 IO_L20N_T3L_N3_AD1N_45, AF15 IO_L20P_T3L_N2_AD1P_45, AF17 IO_L23N_T3U_N9_45, AF18 IO_L21N_T3L_N5_AD8N_45, AF19 VREF_45, AF20 IO_L2P_T0L_N2_44, AF22 IO_L6P_T0U_N10_AD6P_44, AF23 IO_L8P_T1L_N2_AD5P_44, AF24 IO_L8N_T1L_N3_AD5N_44, AF25 IO_T1U_N12_44, AG14 IO_L18N_T2U_N11_AD2N_45, AG15 IO_L18P_T2U_N10_AD2P_45, AG16 IO_L15N_T2L_N5_AD11N_45, AG17 IO_L15P_T2L_N4_AD11P_45, AG19 IO_L17P_T2U_N8_AD10P_45, AG20 IO_L2N_T0L_N3_44, AG21 IO_L4P_T0U_N6_DBC_AD7P_44, AG22 IO_L6N_T0U_N11_AD6N_44, AG24 IO_L9P_T1L_N4_AD12P_44, AG25 IO_L9N_T1L_N5_AD12N_44, AH14 IO_T2U_N12_45, AH16 IO_L14P_T2L_N2_GC_45, AH17 IO_L13N_T2L_N1_GC_QBC_45, AH18 IO_L13P_T2L_N0_GC_QBC_45, AH19 IO_L17N_T2U_N9_AD10N_45, AH21 IO_L4N_T0U_N7_DBC_AD7N_44, AH22 IO_L12P_T1U_N10_GC_44, AH23 IO_L12N_T1U_N11_GC_44, AH24 IO_L10P_T1U_N6_QBC_AD4P_44, AJ14 IO_L16N_T2U_N7_QBC_AD3N_45, AJ15 IO_L16P_T2U_N6_QBC_AD3P_45, AJ16 IO_L14N_T2L_N3_GC_45, AJ18 IO_L11P_T1U_N8_GC_45, AJ19 IO_T1U_N12_45, AJ20 IO_L16P_T2U_N6_QBC_AD3P_44, AJ21 IO_L13P_T2L_N0_GC_QBC_44, AJ23 IO_L11P_T1U_N8_GC_44, AJ24 IO_L11N_T1U_N9_GC_44, AJ25 IO_L10N_T1U_N7_QBC_AD4N_44, AK15 IO_L9P_T1L_N4_AD12P_45, AK16 IO_L12N_T1U_N11_GC_45, AK17 IO_L12P_T1U_N10_GC_45, AK18 IO_L11N_T1U_N9_GC_45, AK20 IO_L16N_T2U_N7_QBC_AD3N_44, AK21 IO_L13N_T2L_N1_GC_QBC_44, AK22 IO_L14P_T2L_N2_GC_44, AK23 IO_L14N_T2L_N3_GC_44, AK25 IO_T2U_N12_44, AL14 IO_L7P_T1L_N0_QBC_AD13P_45, AL15 IO_L9N_T1L_N5_AD12N_45, AL17 IO_L10N_T1U_N7_QBC_AD4N_45, AL18 IO_L10P_T1U_N6_QBC_AD4P_45, AL19 IO_L8P_T1L_N2_AD5P_45, AL20 IO_L15P_T2L_N4_AD11P_44, AL22 IO_L17P_T2U_N8_AD10P_44, AL23 IO_L17N_T2U_N9_AD10N_44, AL24 IO_L18P_T2U_N10_AD2P_44, AL25 IO_L18N_T2U_N11_AD2N_44, AM14 IO_L7N_T1L_N1_QBC_AD13N_45, AM15 IO_L5N_T0U_N9_AD14N_45, AM16 IO_L5P_T0U_N8_AD14P_45, AM17 IO_L3P_T0L_N4_AD15P_45, AM19 IO_L8N_T1L_N3_AD5N_45, AM20 IO_L15N_T2L_N5_AD11N_44, AM21 IO_L19P_T3L_N0_DBC_AD9P_44, AM22 IO_L20P_T3L_N2_AD1P_44, AM24 IO_L21P_T3L_N4_AD8P_44, AM25 IO_T3U_N12_44, AN14 IO_L1P_T0L_N0_DBC_45, AN16 IO_L3N_T0L_N5_AD15N_45, AN17 IO_L4N_T0U_N7_DBC_AD7N_45, AN18 IO_L4P_T0U_N6_DBC_AD7P_45, AN19 IO_L2P_T0L_N2_45, AN21 IO_L19N_T3L_N1_DBC_AD9N_44, AN22 IO_L20N_T3L_N3_AD1N_44, AN23 IO_L24P_T3U_N10_44, AN24 IO_L21N_T3L_N5_AD8N_44, AP14 IO_L1N_T0L_N1_DBC_45, AP15 IO_L6N_T0U_N11_AD6N_45, AP16 IO_L6P_T0U_N10_AD6P_45, AP18 IO_L2N_T0L_N3_45, AP19 IO_T0U_N12_VRP_45, AP20 IO_L22P_T3U_N6_DBC_AD0P_44, AP21 IO_L22N_T3U_N7_DBC_AD0N_44, AP23 IO_L24N_T3U_N11_44, AP24 IO_L23P_T3U_N8_44, AP25 IO_L23N_T3U_N9_44, K7 M0_0, L7 M1_0, M7 M2_0, N7 DONE_0, P7 POR_OVERRIDE, R7 PUDC_B_0, T7 PROGRAM_B_0, U7 RDWR_FCS_B_0, U9 TDO_0, U11 GNDADC, U12 VCCADC, V7 INIT_B_0, V9 TDI_0, V11 VREFN, V12 VP, W7 CFGBVS_0, W9 TMS_0, W11 VN, W12 VREFP, Y7 D03_0, Y11 DXN, Y12 DXP
part B pins: AA20 IO_L9P_T1L_N4_AD12P_47, AA22 IO_L7P_T1L_N0_QBC_AD13P_47, AA23 IO_L11N_T1U_N9_GC_47, AA24 IO_L12P_T1U_N10_GC_47, AA25 IO_L12N_T1U_N11_GC_47, AA27 IO_L5P_T0U_N8_AD14P_47, AA28 IO_T0U_N12_VRP_47, AB20 IO_L9N_T1L_N5_AD12N_47, AB21 IO_L10P_T1U_N6_QBC_AD4P_47, AB22 IO_L7N_T1L_N1_QBC_AD13N_47, AB24 IO_L3P_T0L_N4_AD15P_47, AB25 IO_L6P_T0U_N10_AD6P_47, AB26 IO_L6N_T0U_N11_AD6N_47, AB27 IO_L5N_T0U_N9_AD14N_47, AC21 IO_L10N_T1U_N7_QBC_AD4N_47, AC22 IO_L8P_T1L_N2_AD5P_47, AC23 IO_L8N_T1L_N3_AD5N_47, AC24 IO_L3N_T0L_N5_AD15N_47, AC26 IO_L4P_T0U_N6_DBC_AD7P_47, AC27 IO_L4N_T0U_N7_DBC_AD7N_47, AD25 IO_L2P_T0L_N2_47, AD26 IO_L2N_T0L_N3_47, AG26 IO_T0U_N12_VRP_46, AG27 VREF_46, AH26 IO_L1P_T0L_N0_DBC_46, AH27 IO_L5P_T0U_N8_AD14P_46, AH28 IO_L5N_T0U_N9_AD14N_46, AH29 IO_T2U_N12_46, AH31 IO_L17P_T2U_N8_AD10P_46, AH32 IO_L17N_T2U_N9_AD10N_46, AH33 IO_L16P_T2U_N6_QBC_AD3P_46, AH34 IO_L18P_T2U_N10_AD2P_46, AJ26 IO_L1N_T0L_N1_DBC_46, AJ28 IO_L6P_T0U_N10_AD6P_46, AJ29 IO_L13P_T2L_N0_GC_QBC_46, AJ30 IO_L15P_T2L_N4_AD11P_46, AJ31 IO_L15N_T2L_N5_AD11N_46, AJ33 IO_L16N_T2U_N7_QBC_AD3N_46, AJ34 IO_L18N_T2U_N11_AD2N_46, AK26 IO_L3P_T0L_N4_AD15P_46, AK27 IO_L3N_T0L_N5_AD15N_46, AK28 IO_L6N_T0U_N11_AD6N_46, AK30 IO_L13N_T2L_N1_GC_QBC_46, AK31 IO_L14P_T2L_N2_GC_46, AK32 IO_L14N_T2L_N3_GC_46, AK33 IO_T3U_N12_46, AL27 IO_L4P_T0U_N6_DBC_AD7P_46, AL28 IO_L4N_T0U_N7_DBC_AD7N_46, AL29 IO_L11P_T1U_N8_GC_46, AL30 IO_L12P_T1U_N10_GC_46, AL32 IO_L19P_T3L_N0_DBC_AD9P_46, AL33 IO_L19N_T3L_N1_DBC_AD9N_46, AL34 IO_L24P_T3U_N10_46, AM26 IO_L2P_T0L_N2_46, AM27 IO_L2N_T0L_N3_46, AM29 IO_L11N_T1U_N9_GC_46, AM30 IO_L12N_T1U_N11_GC_46, AM31 IO_T1U_N12_46, AM32 IO_L23P_T3U_N8_46, AM34 IO_L24N_T3U_N11_46, AN26 IO_L7P_T1L_N0_QBC_AD13P_46, AN27 IO_L9P_T1L_N4_AD12P_46, AN28 IO_L9N_T1L_N5_AD12N_46, AN29 IO_L10P_T1U_N6_QBC_AD4P_46, AN31 IO_L21P_T3L_N4_AD8P_46, AN32 IO_L23N_T3U_N9_46, AN33 IO_L20P_T3L_N2_AD1P_46, AN34 IO_L22P_T3U_N6_DBC_AD0P_46, AP26 IO_L7N_T1L_N1_QBC_AD13N_46, AP28 IO_L8P_T1L_N2_AD5P_46, AP29 IO_L8N_T1L_N3_AD5N_46, AP30 IO_L10N_T1U_N7_QBC_AD4N_46, AP31 IO_L21N_T3L_N5_AD8N_46, AP33 IO_L20N_T3L_N3_AD1N_46, AP34 IO_L22N_T3U_N7_DBC_AD0N_46, T22 IO_L17P_T2U_N8_AD10P_47, T23 IO_L17N_T2U_N9_AD10N_47, U21 IO_L15P_T2L_N4_AD11P_47, U22 IO_L15N_T2L_N5_AD11N_47, U24 IO_L20P_T3L_N2_AD1P_47, U25 IO_L20N_T3L_N3_AD1N_47, U26 IO_L22P_T3U_N6_DBC_AD0P_47, U27 IO_L22N_T3U_N7_DBC_AD0N_47, U29 IO_T3U_N12_47, V21 IO_L18P_T2U_N10_AD2P_47, V22 IO_L16P_T2U_N6_QBC_AD3P_47, V23 IO_L16N_T2U_N7_QBC_AD3N_47, V24 VREF_47, V26 IO_L24P_T3U_N10_47, V27 IO_L19P_T3L_N0_DBC_AD9P_47, V28 IO_L19N_T3L_N1_DBC_AD9N_47, V29 IO_L23P_T3U_N8_47, W21 IO_L18N_T2U_N11_AD2N_47, W23 IO_L13P_T2L_N0_GC_QBC_47, W24 IO_L13N_T2L_N1_GC_QBC_47, W25 IO_L14P_T2L_N2_GC_47, W26 IO_L24N_T3U_N11_47, W28 IO_L21P_T3L_N4_AD8P_47, W29 IO_L23N_T3U_N9_47, Y21 IO_T2U_N12_47, Y22 IO_T1U_N12_47, Y23 IO_L11P_T1U_N8_GC_47, Y25 IO_L14N_T2L_N3_GC_47, Y26 IO_L1P_T0L_N0_DBC_47, Y27 IO_L1N_T0L_N1_DBC_47, Y28 IO_L21N_T3L_N5_AD8N_47
part C pins: A8 IO_T0U_N12_VRP_66, A9 IO_L2N_T0L_N3_66, A10 IO_L4N_T0U_N7_DBC_AD7N_66, A12 IO_L23N_T3U_N9_66, A13 IO_L23P_T3U_N8_66, AA29 IO_L16P_T2U_N6_QBC_AD3P_48, AA30 VREF_48, AA32 IO_L13P_T2L_N0_GC_QBC_48, AA33 IO_T2U_N12_48, AA34 IO_L17P_T2U_N8_AD10P_48, AB29 IO_L16N_T2U_N7_QBC_AD3N_48, AB30 IO_L14P_T2L_N2_GC_48, AB31 IO_L14N_T2L_N3_GC_48, AB32 IO_L13N_T2L_N1_GC_QBC_48, AB34 IO_L17N_T2U_N9_AD10N_48, AC28 IO_L3P_T0L_N4_AD15P_48, AC29 IO_T0U_N12_VRP_48, AC31 IO_L12P_T1U_N10_GC_48, AC32 IO_L12N_T1U_N11_GC_48, AC33 IO_L18P_T2U_N10_AD2P_48, AC34 IO_L15P_T2L_N4_AD11P_48, AD28 IO_L3N_T0L_N5_AD15N_48, AD29 IO_L5P_T0U_N8_AD14P_48, AD30 IO_L11P_T1U_N8_GC_48, AD31 IO_L11N_T1U_N9_GC_48, AD33 IO_L18N_T2U_N11_AD2N_48, AD34 IO_L15N_T2L_N5_AD11N_48, AE27 IO_L1P_T0L_N0_DBC_48, AE28 IO_L2P_T0L_N2_48, AE30 IO_L5N_T0U_N9_AD14N_48, AE31 IO_T1U_N12_48, AE32 IO_L9P_T1L_N4_AD12P_48, AE33 IO_L10P_T1U_N6_QBC_AD4P_48, AF27 IO_L1N_T0L_N1_DBC_48, AF28 IO_L2N_T0L_N3_48, AF29 IO_L4P_T0U_N6_DBC_AD7P_48, AF30 IO_L6P_T0U_N10_AD6P_48, AF32 IO_L9N_T1L_N5_AD12N_48, AF33 IO_L8P_T1L_N2_AD5P_48, AF34 IO_L10N_T1U_N7_QBC_AD4N_48, AG29 IO_L4N_T0U_N7_DBC_AD7N_48, AG30 IO_L6N_T0U_N11_AD6N_48, AG31 IO_L7P_T1L_N0_QBC_AD13P_48, AG32 IO_L7N_T1L_N1_QBC_AD13N_48, AG34 IO_L8N_T1L_N3_AD5N_48, B9 IO_L2P_T0L_N2_66, B10 IO_L4P_T0U_N6_DBC_AD7P_66, B11 IO_L21N_T3L_N5_AD8N_66, B12 IO_L20N_T3L_N3_AD1N_66, C8 IO_L3N_T0L_N5_AD15N_66, C9 IO_L5N_T0U_N9_AD14N_66, C11 IO_L21P_T3L_N4_AD8P_66, C12 IO_L20P_T3L_N2_AD1P_66, C13 IO_L24N_T3U_N11_66, D8 IO_L3P_T0L_N4_AD15P_66, D9 IO_L5P_T0U_N8_AD14P_66, D10 IO_L6N_T0U_N11_AD6N_66, D11 IO_L19N_T3L_N1_DBC_AD9N_66, D13 IO_L24P_T3U_N10_66, E8 IO_L1N_T0L_N1_DBC_66, E10 IO_L6P_T0U_N10_AD6P_66, E11 IO_L19P_T3L_N0_DBC_AD9P_66, E12 IO_T3U_N12_66, E13 IO_L22N_T3U_N7_DBC_AD0N_66, F8 IO_L1P_T0L_N0_DBC_66, F9 IO_L11N_T1U_N9_GC_66, F10 IO_L12N_T1U_N11_GC_66, F12 IO_T2U_N12_66, F13 IO_L22P_T3U_N6_DBC_AD0P_66, G9 IO_L11P_T1U_N8_GC_66, G10 IO_L12P_T1U_N10_GC_66, G11 IO_L13N_T2L_N1_GC_QBC_66, G12 IO_L14N_T2L_N3_GC_66, H8 IO_L9N_T1L_N5_AD12N_66, H9 IO_L8N_T1L_N3_AD5N_66, H11 IO_L13P_T2L_N0_GC_QBC_66, H12 IO_L14P_T2L_N2_GC_66, H13 IO_L18N_T2U_N11_AD2N_66, J8 IO_L9P_T1L_N4_AD12P_66, J9 IO_L8P_T1L_N2_AD5P_66, J10 IO_L10N_T1U_N7_QBC_AD4N_66, J11 IO_L15N_T2L_N5_AD11N_66, J13 IO_L18P_T2U_N10_AD2P_66, K8 IO_L7N_T1L_N1_QBC_AD13N_66, K10 IO_L10P_T1U_N6_QBC_AD4P_66, K11 IO_L15P_T2L_N4_AD11P_66, K12 IO_L17N_T2U_N9_AD10N_66, K13 IO_L16N_T2U_N7_QBC_AD3N_66, L8 IO_L7P_T1L_N0_QBC_AD13P_66, L9 IO_T1U_N12_66, L10 VREF_66, L12 IO_L17P_T2U_N8_AD10P_66, L13 IO_L16P_T2U_N6_QBC_AD3P_66, U34 IO_L23P_T3U_N8_48, V31 IO_L24P_T3U_N10_48, V32 IO_T3U_N12_48, V33 IO_L21P_T3L_N4_AD8P_48, V34 IO_L23N_T3U_N9_48, W30 IO_L20P_T3L_N2_AD1P_48, W31 IO_L24N_T3U_N11_48, W33 IO_L19P_T3L_N0_DBC_AD9P_48, W34 IO_L21N_T3L_N5_AD8N_48, Y30 IO_L20N_T3L_N3_AD1N_48, Y31 IO_L22P_T3U_N6_DBC_AD0P_48, Y32 IO_L22N_T3U_N7_DBC_AD0N_48, Y33 IO_L19N_T3L_N1_DBC_AD9N_48
part D pins: A14 IO_L1N_T0L_N1_DBC_68, A15 IO_L3N_T0L_N5_AD15N_68, A17 IO_T0U_N12_VRP_68, A18 IO_L2N_T0L_N3_68, A19 IO_L2P_T0L_N2_68, A20 IO_L17N_T2U_N9_AD10N_67, A22 IO_T2U_N12_67, A23 IO_T1U_N12_67, A24 IO_L10N_T1U_N7_QBC_AD4N_67, A25 IO_L8N_T1L_N3_AD5N_67, A27 IO_L6P_T0U_N10_AD6P_67, A28 IO_L6N_T0U_N11_AD6N_67, A29 IO_L4N_T0U_N7_DBC_AD7N_67, B14 IO_L1P_T0L_N0_DBC_68, B15 IO_L3P_T0L_N4_AD15P_68, B16 IO_L5N_T0U_N9_AD14N_68, B17 IO_L5P_T0U_N8_AD14P_68, B19 IO_L4N_T0U_N7_DBC_AD7N_68, B20 IO_L17P_T2U_N8_AD10P_67, B21 IO_L15P_T2L_N4_AD11P_67, B22 IO_L15N_T2L_N5_AD11N_67, B24 IO_L10P_T1U_N6_QBC_AD4P_67, B25 IO_L8P_T1L_N2_AD5P_67, B26 IO_L9N_T1L_N5_AD12N_67, B27 IO_L2N_T0L_N3_67, B29 IO_L4P_T0U_N6_DBC_AD7P_67, C14 IO_L7N_T1L_N1_QBC_AD13N_68, C16 IO_T1U_N12_68, C17 IO_L6N_T0U_N11_AD6N_68, C18 IO_L6P_T0U_N10_AD6P_68, C19 IO_L4P_T0U_N6_DBC_AD7P_68, C21 IO_L16P_T2U_N6_QBC_AD3P_67, C22 IO_L16N_T2U_N7_QBC_AD3N_67, C23 IO_L13N_T2L_N1_GC_QBC_67, C24 IO_L12N_T1U_N11_GC_67, C26 IO_L9P_T1L_N4_AD12P_67, C27 IO_L2P_T0L_N2_67, C28 IO_L5N_T0U_N9_AD14N_67, C29 IO_T0U_N12_VRP_67, D14 IO_L7P_T1L_N0_QBC_AD13P_68, D15 IO_L8N_T1L_N3_AD5N_68, D16 IO_L11N_T1U_N9_GC_68, D18 IO_L10N_T1U_N7_QBC_AD4N_68, D19 IO_L10P_T1U_N6_QBC_AD4P_68, D20 IO_L18P_T2U_N10_AD2P_67, D21 IO_L18N_T2U_N11_AD2N_67, D23 IO_L13P_T2L_N0_GC_QBC_67, D24 IO_L12P_T1U_N10_GC_67, D25 IO_L11N_T1U_N9_GC_67, D26 IO_L7N_T1L_N1_QBC_AD13N_67, D28 IO_L5P_T0U_N8_AD14P_67, D29 IO_L3N_T0L_N5_AD15N_67, E15 IO_L8P_T1L_N2_AD5P_68, E16 IO_L11P_T1U_N8_GC_68, E17 IO_L12N_T1U_N11_GC_68, E18 IO_L12P_T1U_N10_GC_68, E20 IO_L20P_T3L_N2_AD1P_67, E21 IO_L20N_T3L_N3_AD1N_67, E22 IO_L14P_T2L_N2_GC_67, E23 IO_L14N_T2L_N3_GC_67, E25 IO_L11P_T1U_N8_GC_67, E26 IO_L7P_T1L_N0_QBC_AD13P_67, E27 IO_L1N_T0L_N1_DBC_67, E28 IO_L3P_T0L_N4_AD15P_67, F14 IO_L9N_T1L_N5_AD12N_68, F15 IO_L9P_T1L_N4_AD12P_68, F17 IO_L14N_T2L_N3_GC_68, F18 IO_L14P_T2L_N2_GC_68, F19 IO_L16N_T2U_N7_QBC_AD3N_68, F20 IO_L22N_T3U_N7_DBC_AD0N_67, F22 IO_L23N_T3U_N9_67, F23 IO_L21P_T3L_N4_AD8P_67, F24 IO_L21N_T3L_N5_AD8N_67, F25 IO_L19N_T3L_N1_DBC_AD9N_67, F27 IO_L1P_T0L_N0_DBC_67, G14 IO_L15N_T2L_N5_AD11N_68, G15 IO_L15P_T2L_N4_AD11P_68, G16 IO_L13N_T2L_N1_GC_QBC_68, G17 IO_L13P_T2L_N0_GC_QBC_68, G19 IO_L16P_T2U_N6_QBC_AD3P_68, G20 IO_L22P_T3U_N6_DBC_AD0P_67, G21 IO_L24N_T3U_N11_67, G22 IO_L23P_T3U_N8_67, G24 IO_L19P_T3L_N0_DBC_AD9P_67, H14 IO_T2U_N12_68, H16 IO_L17N_T2U_N9_AD10N_68, H17 IO_L17P_T2U_N8_AD10P_68, H18 IO_L18N_T2U_N11_AD2N_68, H19 IO_L18P_T2U_N10_AD2P_68, H21 IO_L24P_T3U_N10_67, H22 IO_T3U_N12_67, J14 IO_L19N_T3L_N1_DBC_AD9N_68, J15 IO_L19P_T3L_N0_DBC_AD9P_68, J16 IO_L23N_T3U_N9_68, J18 IO_L22N_T3U_N7_DBC_AD0N_68, J19 IO_L22P_T3U_N6_DBC_AD0P_68, J20 VREF_67, K15 IO_L21N_T3L_N5_AD8N_68, K16 IO_L23P_T3U_N8_68, K17 IO_L20N_T3L_N3_AD1N_68, K18 IO_L20P_T3L_N2_AD1P_68, L14 VREF_68, L15 IO_L21P_T3L_N4_AD8P_68, L17 IO_T3U_N12_68, L18 IO_L24N_T3U_N11_68, L19 IO_L24P_T3U_N10_68
part E pins: AD8 IO_L17N_T2U_N9_AD10N_64, AD9 IO_L17P_T2U_N8_AD10P_64, AD10 IO_L16P_T2U_N6_QBC_AD3P_64, AD11 IO_L10P_T1U_N6_QBC_AD4P_64, AD13 VREF_64, AE8 IO_L15P_T2L_N4_AD11P_64, AE10 IO_L16N_T2U_N7_QBC_AD3N_64, AE11 IO_L10N_T1U_N7_QBC_AD4N_64, AE12 IO_L9P_T1L_N4_AD12P_64, AE13 IO_L7P_T1L_N0_QBC_AD13P_64, AF8 IO_L15N_T2L_N5_AD11N_64, AF9 IO_L14P_T2L_N2_GC_64, AF10 IO_L13P_T2L_N0_GC_QBC_64, AF12 IO_L9N_T1L_N5_AD12N_64, AF13 IO_L7N_T1L_N1_QBC_AD13N_64, AG9 IO_L14N_T2L_N3_GC_64, AG10 IO_L13N_T2L_N1_GC_QBC_64, AG11 IO_L12P_T1U_N10_GC_64, AG12 IO_L11P_T1U_N8_GC_64, AH8 IO_L18N_T2U_N11_AD2N_64, AH9 IO_L18P_T2U_N10_AD2P_64, AH11 IO_L12N_T1U_N11_GC_64, AH12 IO_L11N_T1U_N9_GC_64, AH13 IO_L8P_T1L_N2_AD5P_64, AJ8 IO_L23N_T3U_N9_64, AJ9 IO_L23P_T3U_N8_64, AJ10 IO_T2U_N12_64, AJ11 IO_T1U_N12_64, AJ13 IO_L8N_T1L_N3_AD5N_64, AK8 IO_L24P_T3U_N10_64, AK10 IO_L21P_T3L_N4_AD8P_64, AK11 IO_T0U_N12_64, AK12 IO_L5P_T0U_N8_AD14P_64, AK13 IO_L6P_T0U_N10_AD6P_64, AL8 IO_L24N_T3U_N11_64, AL9 IO_L21N_T3L_N5_AD8N_64, AL10 IO_L19P_T3L_N0_DBC_AD9P_64, AL12 IO_L5N_T0U_N9_AD14N_64, AL13 IO_L6N_T0U_N11_AD6N_64, AM9 IO_T3U_N12_64, AM10 IO_L19N_T3L_N1_DBC_AD9N_64, AM11 IO_L3P_T0L_N4_AD15P_64, AM12 IO_L4P_T0U_N6_DBC_AD7P_64, AN8 IO_L22P_T3U_N6_DBC_AD0P_64, AN9 IO_L20P_T3L_N2_AD1P_64, AN11 IO_L3N_T0L_N5_AD15N_64, AN12 IO_L4N_T0U_N7_DBC_AD7N_64, AN13 IO_L2P_T0L_N2_64, AP8 IO_L22N_T3U_N7_DBC_AD0N_64, AP9 IO_L20N_T3L_N3_AD1N_64, AP10 IO_L1N_T0L_N1_DBC_64, AP11 IO_L1P_T0L_N0_DBC_64, AP13 IO_L2N_T0L_N3_64, G25 IO_L2P_T0L_N2_FOE_B_65, G26 IO_L2N_T0L_N3_FWE_FCS2_B_65, G27 IO_L1N_T0L_N1_DBC_RS1_65, H23 IO_T0U_N12_A28_65, H24 IO_L6N_T0U_N11_AD6N_A21_65, H26 IO_L5N_T0U_N9_AD14N_A23_65, H27 IO_L1P_T0L_N0_DBC_RS0_65, J21 VREF_65, J23 IO_L6P_T0U_N10_AD6P_A20_65, J24 IO_L4P_T0U_N6_DBC_AD7P_A24_65, J25 IO_L4N_T0U_N7_DBC_AD7N_A25_65, J26 IO_L5P_T0U_N8_AD14P_A22_65, K20 IO_L24P_T3U_N10_EMCCLK_65, K21 IO_L24N_T3U_N11_DOUT_CSO_B_65, K22 IO_T3U_N12_PERSTN0_65, K23 IO_L10N_T1U_N7_QBC_AD4N_A13_D29_65, K25 IO_L9N_T1L_N5_AD12N_A15_D31_65, K26 IO_L3P_T0L_N4_AD15P_A26_65, K27 IO_L3N_T0L_N5_AD15N_A27_65, L20 IO_L22N_T3U_N7_DBC_AD0N_D05_65, L22 IO_L10P_T1U_N6_QBC_AD4P_A12_D28_65, L23 IO_L8P_T1L_N2_AD5P_A16_65, L24 IO_L8N_T1L_N3_AD5N_A17_65, L25 IO_L9P_T1L_N4_AD12P_A14_D30_65, L27 IO_L7N_T1L_N1_QBC_AD13N_A19_65, M20 IO_L22P_T3U_N6_DBC_AD0P_D04_65, M21 IO_L23N_T3U_N9_I2C_SDA_65, M22 IO_L19N_T3L_N1_DBC_AD9N_D11_65, M24 IO_L12N_T1U_N11_GC_A09_D25_65, M25 IO_L11P_T1U_N8_GC_A10_D26_65, M26 IO_L11N_T1U_N9_GC_A11_D27_65, M27 IO_L7P_T1L_N0_QBC_AD13P_A18_65, N21 IO_L23P_T3U_N8_I2C_SCLK_65, N22 IO_L19P_T3L_N0_DBC_AD9P_D10_65, N23 IO_T1U_N12_PERSTN1_65, N24 IO_L12P_T1U_N10_GC_A08_D24_65, N26 IO_L13N_T2L_N1_GC_QBC_A07_D23_65, N27 IO_T2U_N12_CSI_ADV_B_65, P20 IO_L20P_T3L_N2_AD1P_D08_65, P21 IO_L20N_T3L_N3_AD1N_D09_65, P23 IO_L18N_T2U_N11_AD2N_D13_65, P24 IO_L14P_T2L_N2_GC_A04_D20_65, P25 IO_L14N_T2L_N3_GC_A05_D21_65, P26 IO_L13P_T2L_N0_GC_QBC_A06_D22_65, R21 IO_L21P_T3L_N4_AD8P_D06_65, R22 IO_L21N_T3L_N5_AD8N_D07_65, R23 IO_L18P_T2U_N10_AD2P_D12_65, R25 IO_L17P_T2U_N8_AD10P_D14_65, R26 IO_L17N_T2U_N9_AD10N_D15_65, R27 IO_L15N_T2L_N5_AD11N_A03_D19_65, T24 IO_L16P_T2U_N6_QBC_AD3P_A00_D16_65, T25 IO_L16N_T2U_N7_QBC_AD3N_A01_D17_65, T27 IO_L15P_T2L_N4_AD11P_A02_D18_65
part F pins: A3 MGTHRXN3_228, A4 MGTHRXP3_228, AA3 MGTHTXN0_226, AA4 MGTHTXP0_226, AB1 MGTHRXN3_225, AB2 MGTHRXP3_225, AB5 MGTREFCLK0N_225, AB6 MGTREFCLK0P_225, AC3 MGTHTXN3_225, AC4 MGTHTXP3_225, AD1 MGTHRXN2_225, AD2 MGTHRXP2_225, AD5 MGTREFCLK1N_224, AD6 MGTREFCLK1P_224, AE3 MGTHTXN2_225, AE4 MGTHTXP2_225, AF1 MGTHRXN1_225, AF2 MGTHRXP1_225, AF5 MGTREFCLK0N_224, AF6 MGTREFCLK0P_224, AG3 MGTHTXN1_225, AG4 MGTHTXP1_225, AH1 MGTHRXN0_225, AH2 MGTHRXP0_225, AH5 MGTHTXN0_225, AH6 MGTHTXP0_225, AJ3 MGTHRXN3_224, AJ4 MGTHRXP3_224, AK1 MGTHRXN2_224, AK2 MGTHRXP2_224, AK5 MGTHTXN3_224, AK6 MGTHTXP3_224, AL3 MGTHTXN2_224, AL4 MGTHTXP2_224, AM1 MGTHRXN1_224, AM2 MGTHRXP1_224, AM5 MGTHTXN1_224, AM6 MGTHTXP1_224, AN3 MGTHTXN0_224, AN4 MGTHTXP0_224, AP1 MGTHRXN0_224, AP2 MGTHRXP0_224, AP5 MGTRREF_R, AP6 MGTAVTTRCAL_R, B1 MGTHRXN2_228, B2 MGTHRXP2_228, B5 MGTHTXN3_228, B6 MGTHTXP3_228, C3 MGTHTXN2_228, C4 MGTHTXP2_228, D1 MGTHRXN1_228, D2 MGTHRXP1_228, D5 MGTHTXN1_228, D6 MGTHTXP1_228, E3 MGTHRXN0_228, E4 MGTHRXP0_228, F1 MGTHRXN3_227, F2 MGTHRXP3_227, F5 MGTHTXN0_228, F6 MGTHTXP0_228, G3 MGTHTXN3_227, G4 MGTHTXP3_227, H1 MGTHRXN2_227, H2 MGTHRXP2_227, H5 MGTREFCLK1N_228, H6 MGTREFCLK1P_228, J3 MGTHTXN2_227, J4 MGTHTXP2_227, K1 MGTHRXN1_227, K2 MGTHRXP1_227, K5 MGTREFCLK0N_228, K6 MGTREFCLK0P_228, L3 MGTHTXN1_227, L4 MGTHTXP1_227, M1 MGTHRXN0_227, M2 MGTHRXP0_227, M5 MGTREFCLK1N_227, M6 MGTREFCLK1P_227, N3 MGTHTXN0_227, N4 MGTHTXP0_227, P1 MGTHRXN3_226, P2 MGTHRXP3_226, P5 MGTREFCLK0N_227, P6 MGTREFCLK0P_227, R3 MGTHTXN3_226, R4 MGTHTXP3_226, T1 MGTHRXN2_226, T2 MGTHRXP2_226, T5 MGTREFCLK1N_226, T6 MGTREFCLK1P_226, U3 MGTHTXN2_226, U4 MGTHTXP2_226, V1 MGTHRXN1_226, V2 MGTHRXP1_226, V5 MGTREFCLK0N_226, V6 MGTREFCLK0P_226, W3 MGTHTXN1_226, W4 MGTHTXP1_226, Y1 MGTHRXN0_226, Y2 MGTHRXP0_226, Y5 MGTREFCLK1N_225, Y6 MGTREFCLK1P_225
part G pins: AA6 MGTVCCAUX_R, AC2 MGTAVTT_R, AC6 MGTAVCC_R, AD3 MGTAVTT_R, AE6 MGTAVCC_R, AG2 MGTAVTT_R, AG6 MGTAVCC_R, AH3 MGTAVTT_R, AJ6 MGTAVCC_R, AL2 MGTAVTT_R, AL6 MGTAVCC_R, AM3 MGTAVTT_R, AN6 MGTAVCC_R, C2 MGTAVTT_R, C6 MGTAVCC_R, C32 MGTAVTT_L, D3 MGTAVTT_R, D33 MGTAVTT_L, E6 MGTAVCC_R, E31 MGTAVCC_L, F30 MGTAVCC_L, G2 MGTAVTT_R, G6 MGTAVCC_R, G32 MGTAVTT_L, H3 MGTAVTT_R, H29 MGTAVCC_L, H33 MGTAVTT_L, J6 MGTAVCC_R, J31 MGTAVCC_L, K29 MGTVCCAUX_L, K33 MGTAVTT_L, L2 MGTAVTT_R, L6 MGTAVCC_R, L32 MGTAVTT_L, M3 MGTAVTT_R, M29 MGTVCCAUX_L, N6 MGTAVCC_R, N31 MGTAVCC_L, P29 MGTAVCC_L, P33 MGTAVTT_L, R2 MGTAVTT_R, R6 MGTVCCAUX_R, R32 MGTAVTT_L, T3 MGTAVTT_R, U6 MGTAVCC_R, W2 MGTAVTT_R, W6 MGTAVCC_R, Y3 MGTAVTT_R
part H pins: A1 GND, A2 GND, A5 GND, A6 GND, A7 GND, A11 GND, A21 GND, A30 GND, A31 GND, A32 GND, B3 GND, B4 GND, B7 GND, B8 GND, B18 GND, B28 GND, B30 GND, B33 GND, B34 GND, C1 GND, C5 GND, C7 GND, C15 GND, C25 GND, C30 GND, C31 GND, D4 GND, D7 GND, D12 GND, D22 GND, D30 GND, D34 GND, E1 GND, E2 GND, E5 GND, E7 GND, E9 GND, E19 GND, E29 GND, E30 GND, E32 GND, F3 GND, F4 GND, F7 GND, F16 GND, F26 GND, F28 GND, F29 GND, F33 GND, F34 GND, G1 GND, G5 GND, G7 GND, G13 GND, G23 GND, G28 GND, G31 GND, H4 GND, H7 GND, H10 GND, H20 GND, H28 GND, H30 GND, H34 GND, J1 GND, J2 GND, J5 GND, J7 GND, J17 GND, J27 GND, J28 GND, J32 GND, K3 GND, K4 GND, K14 GND, K24 GND, K28 GND, K30 GND, K34 GND, L1 GND, L5 GND, L11 GND, L21 GND, L28 GND, L31 GND, M4 GND, M8 GND, M10 GND, M12 GND, M14 GND, M16 GND, M18 GND, M28 GND, M30 GND, M33 GND, M34 GND, N1 GND, N2 GND, N5 GND, N9 GND
part I pins: AA1 GND, AA2 GND, AA5 GND, AA11 GND, AA13 GND, AA15 GND, AA17 GND, AA19 GND, AA21 GND, AA31 GND, AB3 GND, AB4 GND, AB8 GND, AB10 GND, AB12 GND, AB14 GND, AB16 GND, AB18 GND, AB28 GND, AC1 GND, N11 GND, N13 GND, N15 GND, N17 GND, N19 GND, N25 GND, N28 GND, N32 GND, P3 GND, P4 GND, P8 GND, P10 GND, P12 GND, P14 GND, P16 GND, P18 GND, P22 GND, P28 GND, P30 GND, P34 GND, R1 GND, R5 GND, R9 GND, R11 GND, R13 GND, R15 GND, R17 GND, R19 GND, R28 GND, R31 GND, T4 GND, T8 GND, T10 GND, T12 GND, T14 GND, T16 GND, T18 GND, T20 GND, T26 GND, T28 GND, T29 GND, T30 GND, T33 GND, T34 GND, U1 GND, U2 GND, U5 GND, U13 GND, U15 GND, U17 GND, U19 GND, U23 GND, U30 GND, U31 GND, U32 GND, U33 GND, V3 GND, V4 GND, V10 GND, V14 GND, V16 GND, V18 GND, V20 GND, V30 GND, W1 GND, W5 GND, W13 GND, W15 GND, W17 GND, W19 GND, W27 GND, Y4 GND, Y8 GND, Y10 GND, Y14 GND, Y16 GND, Y18 GND, Y20 GND, Y24 GND, Y34 GND
part J pins: AA8 VCCAUX, AA10 VCCINT, AA12 VCCINT, AA14 VCCINT, AA16 VCCINT, AB11 VCCINT, AB13 VCCINT, AB15 VCCINT, AC5 GND, AC8 VCCAUX, AC10 VCCINT, AC11 GND, AC12 VCCINT, AC13 GND, AC14 VCCINT, AC15 GND, AC16 VCCINT, AC17 GND, AC19 GND, AC25 GND, AD4 GND, AD12 GND, AD22 GND, AD32 GND, AE1 GND, AE2 GND, AE5 GND, AE7 GND, AE9 GND, AE19 GND, AE29 GND, AF3 GND, AF4 GND, AF7 GND, AF16 GND, AF26 GND, AG1 GND, AG5 GND, AG7 GND, AG13 GND, AG23 GND, AG33 GND, AH4 GND, AH7 GND, AH10 GND, AH20 GND, AH30 GND, AJ1 GND, AJ2 GND, AJ5 GND, AJ7 GND, AJ17 GND, AJ27 GND, AK3 GND, AK4 GND, AK7 GND, AK14 GND, AK24 GND, AK34 GND, AL1 GND, AL5 GND, AL7 GND, AL11 GND, AL21 GND, AL31 GND, AM4 GND, AM7 GND, AM8 GND, AM18 GND, AM28 GND, AN1 GND, AN2 GND, AN5 GND, AN7 GND, AN15 GND, AN25 GND, AP3 GND, AP4 GND, AP7 GND, AP12 GND, AP22 GND, AP32 GND, M9 VCCINT, M11 VCCINT, M13 VCCINT, M15 VCCINT, M17 VCCINT_IO, N8 VCCINT, N10 VCCINT, N12 VCCINT, N14 VCCINT, N16 VCCINT, P9 VCCINT, P11 VCCINT, P13 VCCINT, P15 VCCINT, P17 VCCINT_IO, R8 VCCINT, R10 VCCINT, R12 VCCINT, R14 VCCINT, R16 VCCINT, R18 VCCINT_IO, T9 VCCINT, T11 VCCINT, T13 VCCINT, T15 VCCINT, T17 VCCINT, U8 VCCAUX, U10 VCCINT, U14 VCCINT, U16 VCCINT, U18 VCCINT_IO, V8 GND, V13 VCCINT, V15 VCCINT, W8 VCCAUX, W10 VCCINT, W14 VCCINT, W16 VCCINT, W18 VCCINT_IO, Y13 VCCINT, Y15 VCCINT
part K pins: A16 VCCO_68, A26 VCCO_67, A33 NC, A34 NC, AA18 VCCBRAM, AA26 VCCO_47, AB9 VCCO_0, AB17 VCCBRAM, AB19 VCCAUX_IO, AB23 VCCO_47, AB33 VCCO_48, AC18 VCCAUX_IO, AC20 VCCO_47, AC30 VCCO_48, AD17 VCCO_45, AD27 VCCO_48, AE14 VCCO_45, AE24 VCCO_44, AE34 VCCO_48, AF11 VCCO_64, AF21 VCCO_44, AF31 VCCO_48, AG8 VCCO_64, AG18 VCCO_45, AG28 VCCO_46, AH15 VCCO_45, AH25 VCCO_44, AJ12 VCCO_64, AJ22 VCCO_44, AJ32 VCCO_46, AK9 VCCO_64, AK19 VCCO_45, AK29 VCCO_46, AL16 VCCO_45, AL26 VCCO_46, AM13 VCCO_64, AM23 VCCO_44, AM33 VCCO_46, AN10 VCCO_64, AN20 VCCO_44, AN30 VCCO_46, AP17 VCCO_45, AP27 VCCO_46, B13 VCCO_66, B23 VCCO_67, B31 NC, B32 NC, C10 VCCO_66, C20 VCCO_67, C33 NC, C34 NC, D17 VCCO_68, D27 VCCO_67, D31 NC, D32 NC, E14 VCCO_68, E24 VCCO_67, E33 NC, E34 NC, F11 VCCO_66, F21 VCCO_67, F31 NC, F32 NC, G8 VCCO_66, G18 VCCO_68, G29 NC, G30 NC, G33 NC, G34 NC, H15 VCCO_68, H25 VCCO_65, H31 NC, H32 NC, J12 VCCO_66, J22 VCCO_65, J29 NC, J30 NC, J33 NC, J34 NC, K9 VCCO_66, K19 VCCO_68, K31 NC, K32 NC, L16 VCCO_68, L26 VCCO_65, L29 NC, L30 NC, L33 NC, L34 NC, M19 VCCAUX_IO, M23 VCCO_65, M31 NC, M32 NC, N18 VCCAUX_IO, N20 VCCO_65, N29 NC, N30 NC, N33 NC, N34 NC, P19 VCCAUX_IO, P27 VCCO_65, P31 NC, P32 NC, R20 VCCAUX_IO, R24 VCCO_65, R29 NC, R30 NC, R33 NC, R34 NC, T19 VCCAUX_IO, T21 VCCO_47, T31 NC, T32 NC, U20 VCCAUX_IO, U28 VCCO_47, V17 VCCBRAM, V19 VCCAUX_IO, V25 VCCO_47, W20 VCCAUX_IO, W22 VCCO_47, W32 VCCO_48, Y9 VCCO_0, Y17 VCCBRAM, Y19 VCCAUX_IO, Y29 VCCO_48

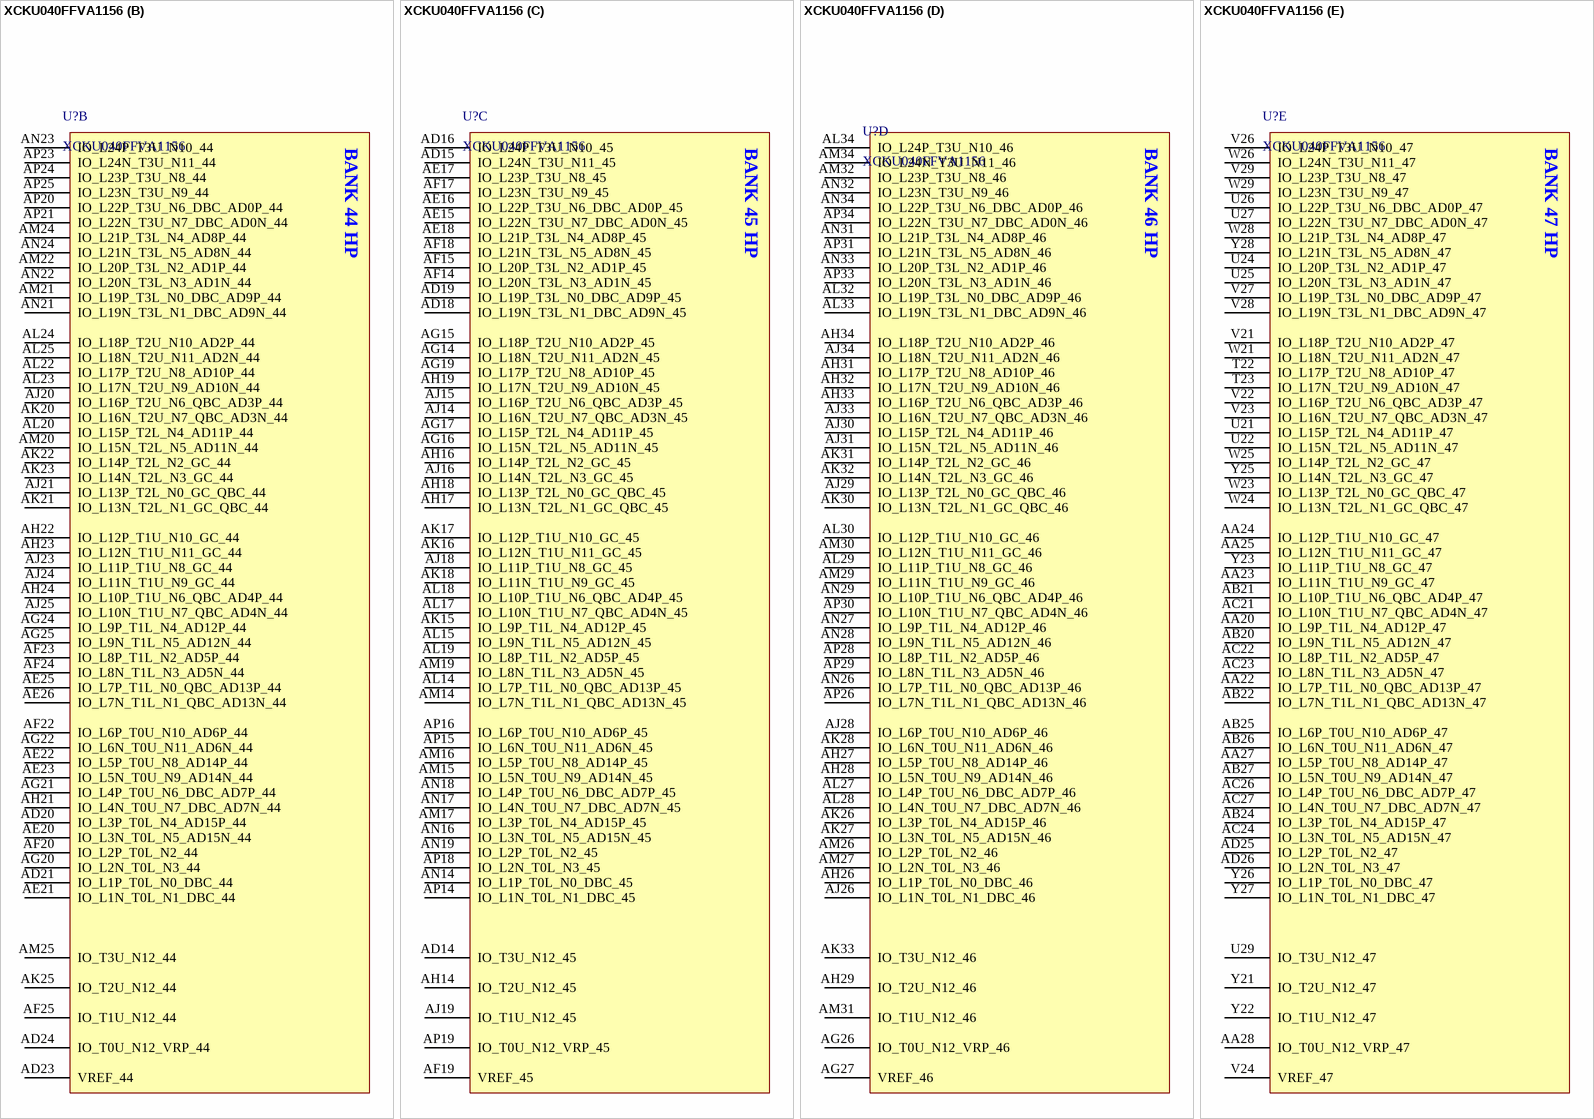
[diagram p12: symbol XCKU040FFVA1156]

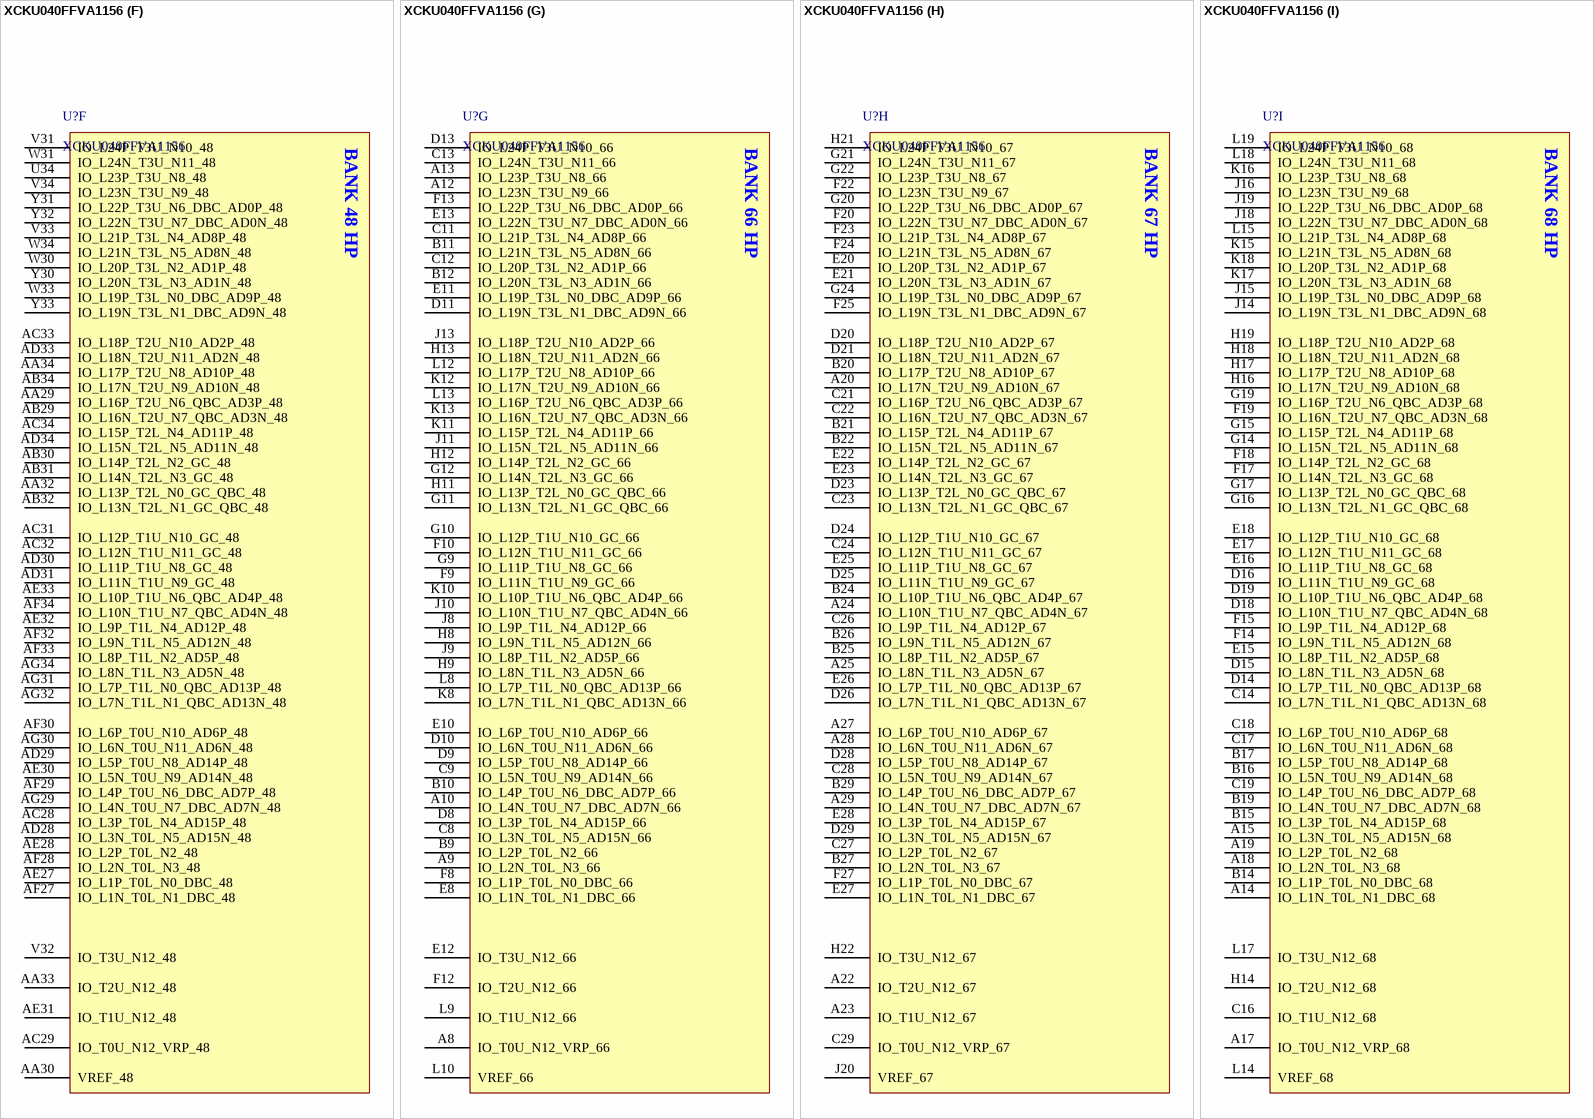
[diagram p13: symbol XCKU040FFVA1156]

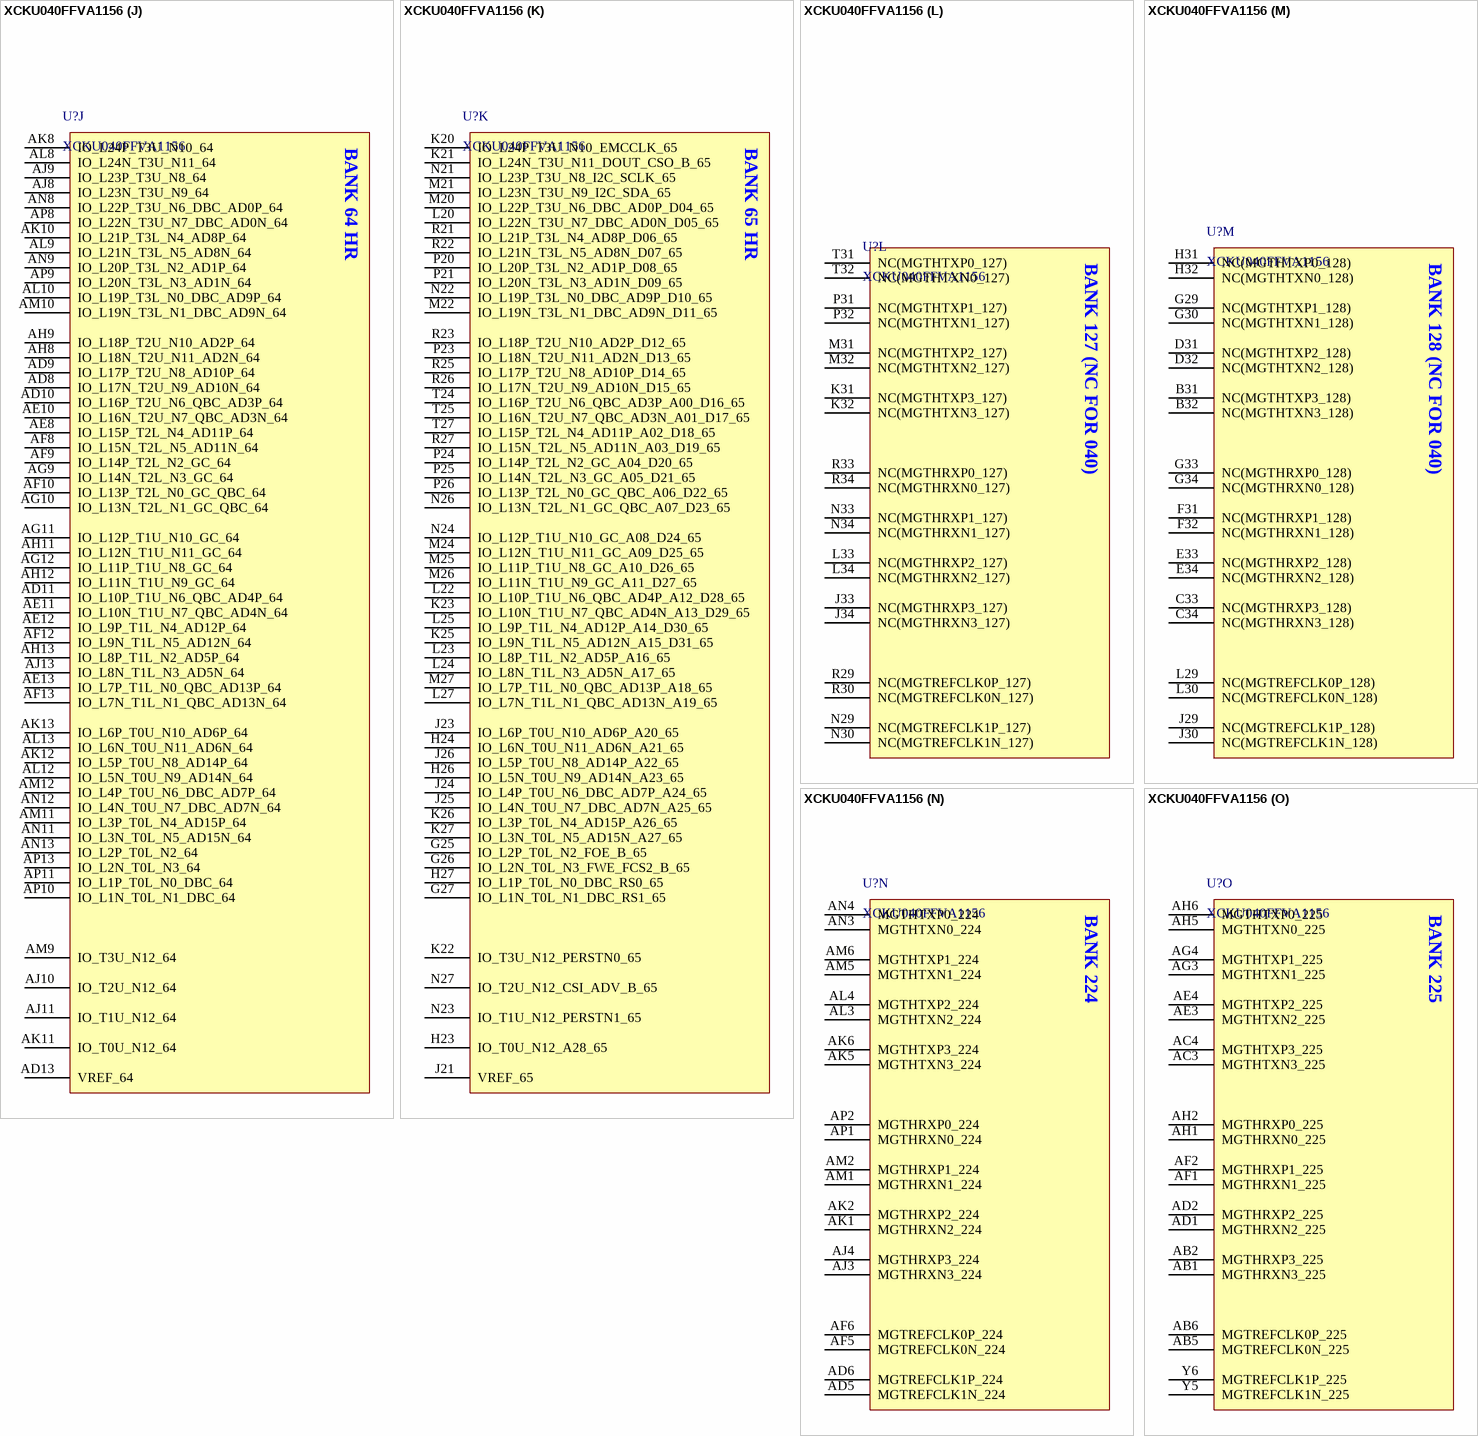
[diagram p14: symbol XCKU040FFVA1156]

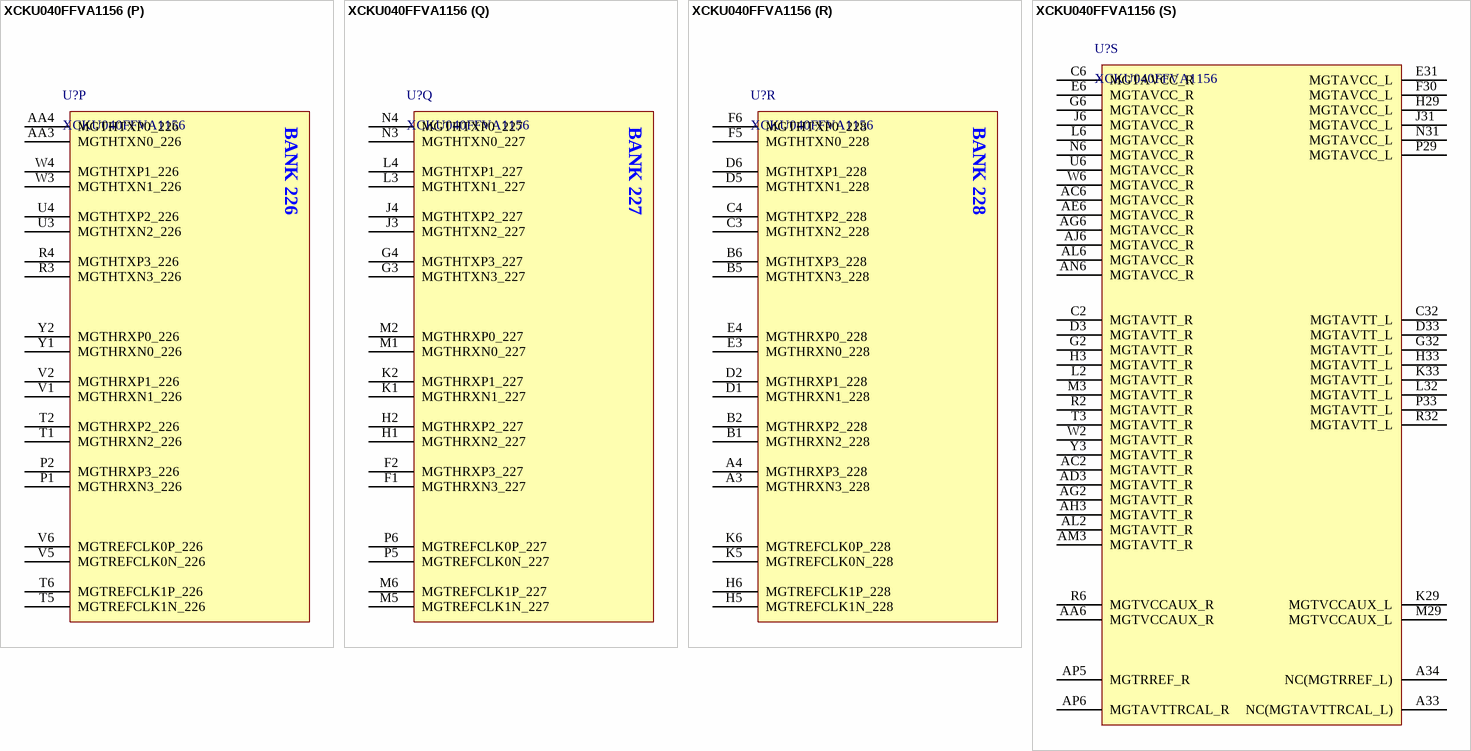
[diagram p15: symbol XCKU040FFVA1156]

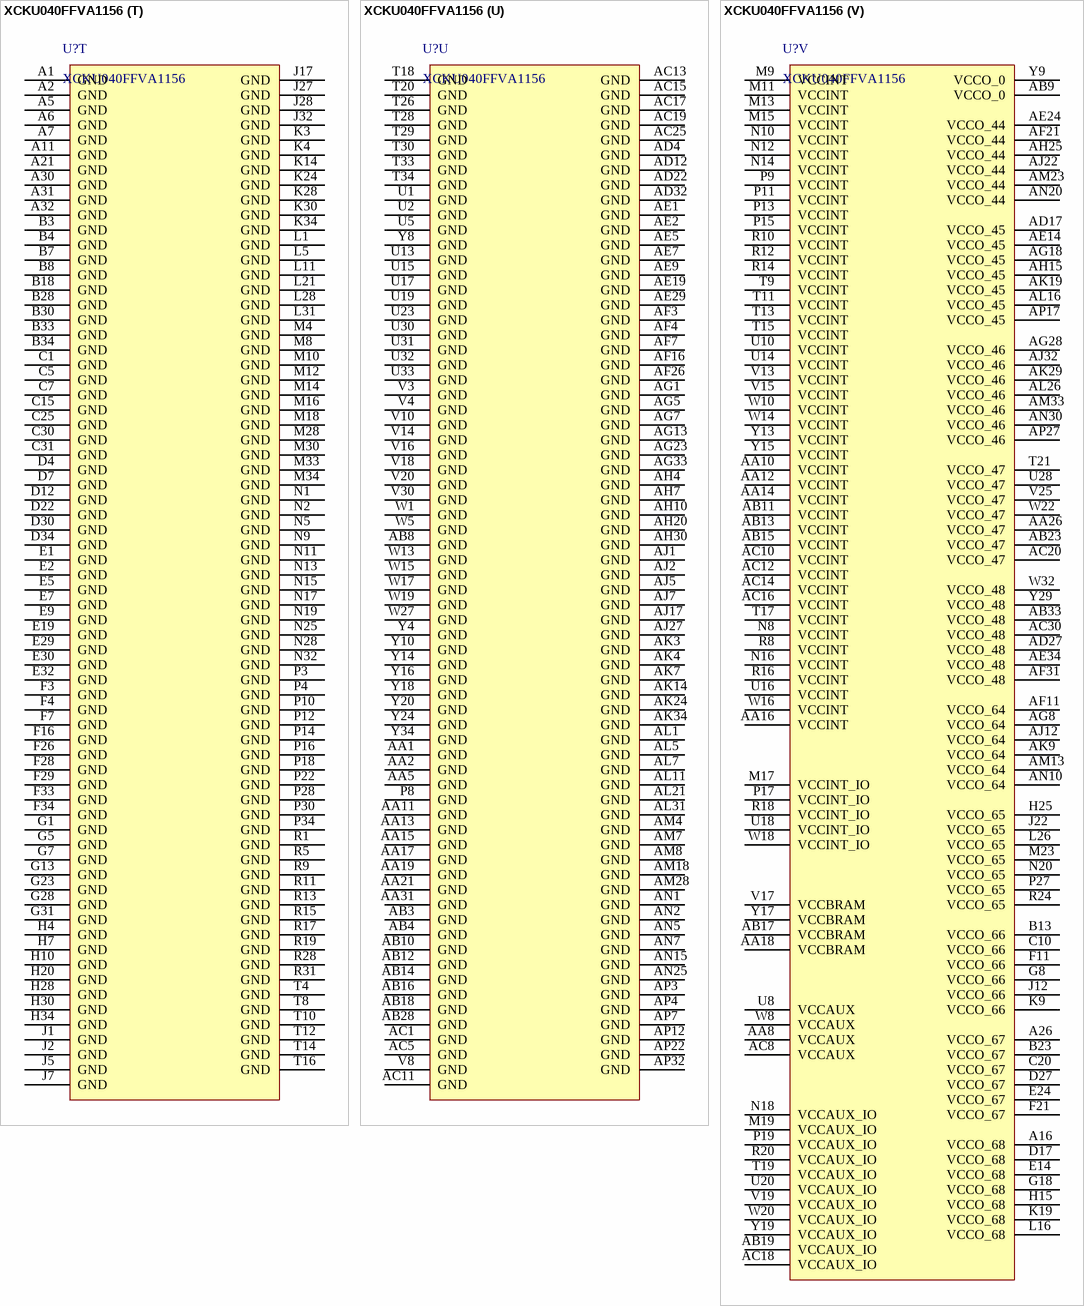
[diagram p16: symbol XCKU040FFVA1156]